# Altium integrated library Microchip PIC24F.IntLib: 529 symbols (part 22 of 32)
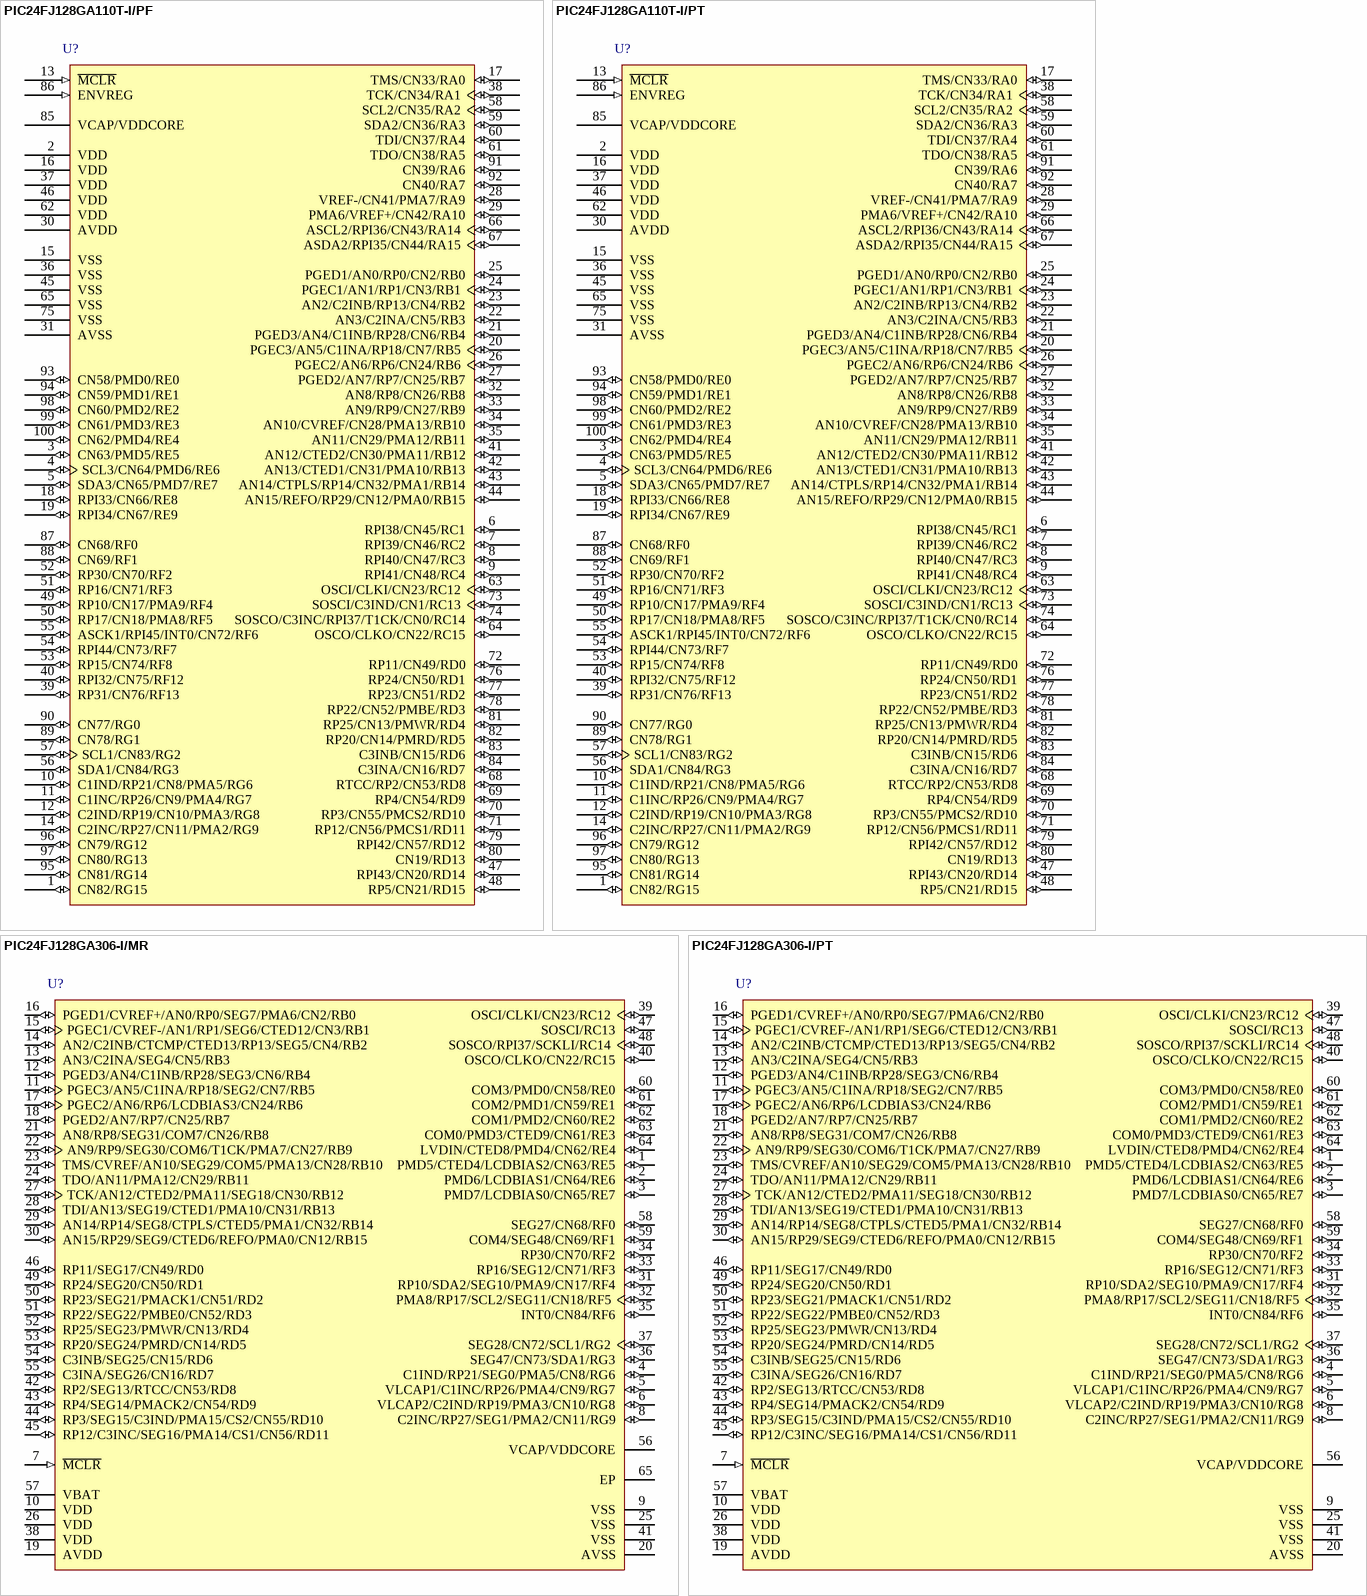
[diagram p143: symbols PIC24FJ128GA110T-I/PF to PIC24FJ128GA306-I/PT]

## PIC24FJ128GA306-I/MR
designator U?
General Purpose, 16-Bit Flash Microcontroller with LCD Controller and nanoWatt XLP Technology, 16 MIPS, 53 I/O, EPMP, -40 to 85 degC, 64-pin QFN (MR64), Tube; Manufacturer: Microchip; PartNumber: PIC24FJ128GA306-I/MR; DatasheetVersion: Rev. F; PackageVersion: C04-149C; PackageReference: QFN-MR64; PackageDescription: 64-Lead Plastic Quad Flat, 9 x 9 mm Body, 0.5 mm Pitch; Supplier 1: Digi-Key; Supplier Part Number 1: PIC24FJ128GA306-I/MR-ND; Supplier 2: Newark; Supplier Part Number 2: 39T6752; Supplier 3: Mouser; Supplier Part Number 3: 579-24FJ128GA306IMR; Mounting Technology: Surface Mount; ComponentLink1Description: Manufacturer URL; ComponentLink1URL: http://www.microchip.com; ComponentLink2Description: Datasheet; ComponentLink2URL: http://ww1.microchip.com/downloads/en/DeviceDoc/39996f.pdf; ComponentLink3Description: Package Specification; ComponentLink3URL: http://www.microchip.com/stellent/groups/techpub_sg/documents/packagingspec/en012702.pdf; ComponentLink4Description: Product URL; ComponentLink4URL: http://www.microchip.com/PIC24FJ128GA306
footprint MCHP-QFN-MR64-7275X7275TP_N (QFN, 64-Leads, Body 9x9mm, Pitch 0.5mm, Thermal Pad 7.275x7.275mm, IPC Medium Density)
footprint MCHP-QFN-MR64-7275X7275TP_L (QFN, 64-Leads, Body 9x9mm, Pitch 0.5mm, Thermal Pad 7.275x7.275mm, IPC High Density)
footprint MCHP-QFN-MR64-7275X7275TP_M (QFN, 64-Leads, Body 9x9mm, Pitch 0.5mm, Thermal Pad 7.275x7.275mm, IPC Low Density)
pins: 1 PMD5/CTED4/LCDBIAS2/CN63/RE5 (io), 2 PMD6/LCDBIAS1/CN64/RE6 (io), 3 PMD7/LCDBIAS0/CN65/RE7 (io), 4 C1IND/RP21/SEG0/PMA5/CN8/RG6 (io), 5 VLCAP1/C1INC/RP26/PMA4/CN9/RG7 (io), 6 VLCAP2/C2IND/RP19/PMA3/CN10/RG8 (io), 7 ~{MCLR} (in) "Master Clear (Reset) input. This pin is an active-low Reset to the device.", 8 C2INC/RP27/SEG1/PMA2/CN11/RG9 (io), 9 VSS (power) "Ground reference for logic and I/O pins.", 10 VDD (power) "Positive supply for peripheral logic and I/O pins.", 11 PGEC3/AN5/C1INA/RP18/SEG2/CN7/RB5 (io), 12 PGED3/AN4/C1INB/RP28/SEG3/CN6/RB4 (io), 13 AN3/C2INA/SEG4/CN5/RB3 (io), 14 AN2/C2INB/CTCMP/CTED13/RP13/SEG5/CN4/RB2 (io), 15 PGEC1/CVREF-/AN1/RP1/SEG6/CTED12/CN3/RB1 (io), 16 PGED1/CVREF+/AN0/RP0/SEG7/PMA6/CN2/RB0 (io), 17 PGEC2/AN6/RP6/LCDBIAS3/CN24/RB6 (io), 18 PGED2/AN7/RP7/CN25/RB7 (io), 19 AVDD (power) "Positive supply for analog modules. This pin must be connected at all times.", 20 AVSS (power) "Ground reference for analog modules.", 21 AN8/RP8/SEG31/COM7/CN26/RB8 (io), 22 AN9/RP9/SEG30/COM6/T1CK/PMA7/CN27/RB9 (io), 23 TMS/CVREF/AN10/SEG29/COM5/PMA13/CN28/RB10 (io), 24 TDO/AN11/PMA12/CN29/RB11 (io), 25 VSS (power) "Ground reference for logic and I/O pins.", 26 VDD (power) "Positive supply for peripheral logic and I/O pins.", 27 TCK/AN12/CTED2/PMA11/SEG18/CN30/RB12 (io), 28 TDI/AN13/SEG19/CTED1/PMA10/CN31/RB13 (io), 29 AN14/RP14/SEG8/CTPLS/CTED5/PMA1/CN32/RB14 (io), 30 AN15/RP29/SEG9/CTED6/REFO/PMA0/CN12/RB15 (io), 31 RP10/SDA2/SEG10/PMA9/CN17/RF4 (io), 32 PMA8/RP17/SCL2/SEG11/CN18/RF5 (io), 33 RP16/SEG12/CN71/RF3 (io), 34 RP30/CN70/RF2 (io), 35 INT0/CN84/RF6 (io), 36 SEG47/CN73/SDA1/RG3 (io), 37 SEG28/CN72/SCL1/RG2 (io), 38 VDD (power) "Positive supply for peripheral logic and I/O pins.", 39 OSCI/CLKI/CN23/RC12 (io), 40 OSCO/CLKO/CN22/RC15 (io), 41 VSS (power) "Ground reference for logic and I/O pins.", 42 RP2/SEG13/RTCC/CN53/RD8 (io), 43 RP4/SEG14/PMACK2/CN54/RD9 (io), 44 RP3/SEG15/C3IND/PMA15/CS2/CN55/RD10 (io), 45 RP12/C3INC/SEG16/PMA14/CS1/CN56/RD11 (io), 46 RP11/SEG17/CN49/RD0 (io), 47 SOSCI/RC13 (io), 48 SOSCO/RPI37/SCKLI/RC14 (io), 49 RP24/SEG20/CN50/RD1 (io), 50 RP23/SEG21/PMACK1/CN51/RD2 (io), 51 RP22/SEG22/PMBE0/CN52/RD3 (io), 52 RP25/SEG23/PMWR/CN13/RD4 (io), 53 RP20/SEG24/PMRD/CN14/RD5 (io), 54 C3INB/SEG25/CN15/RD6 (io), 55 C3INA/SEG26/CN16/RD7 (io), 56 VCAP/VDDCORE, 57 VBAT (power) "Back-up Battery.", 58 SEG27/CN68/RF0 (io), 59 COM4/SEG48/CN69/RF1 (io), 60 COM3/PMD0/CN58/RE0 (io), 61 COM2/PMD1/CN59/RE1 (io), 62 COM1/PMD2/CN60/RE2 (io), 63 COM0/PMD3/CTED9/CN61/RE3 (io), 64 LVDIN/CTED8/PMD4/CN62/RE4 (io), 65 EP (power)

## PIC24FJ128GA306-I/PT
designator U?
General Purpose, 16-Bit Flash Microcontroller with LCD Controller and nanoWatt XLP Technology, 16 MIPS, 53 I/O, EPMP, -40 to 85 degC, 64-pin TQFP (PT64), Tray; Manufacturer: Microchip; PartNumber: PIC24FJ128GA306-I/PT; DatasheetVersion: Rev. F; PackageVersion: C04-085B; PackageReference: TQFP-PT64; PackageDescription: 64-Lead Plastic Thin Quad FlatPack, 10 x 10 mm Body, 0.5 mm Pitch; Supplier 1: Digi-Key; Supplier Part Number 1: PIC24FJ128GA306-I/PT-ND; Supplier 2: Farnell; Supplier Part Number 2: 2076546; Supplier 3: Newark; Supplier Part Number 3: 39T6753; Supplier 4: Mouser; Supplier Part Number 4: 579-24FJ128GA306IPT; Mounting Technology: Surface Mount; ComponentLink1Description: Manufacturer URL; ComponentLink1URL: http://www.microchip.com; ComponentLink2Description: Datasheet; ComponentLink2URL: http://ww1.microchip.com/downloads/en/DeviceDoc/39996f.pdf; ComponentLink3Description: Package Specification; ComponentLink3URL: http://www.microchip.com/stellent/groups/techpub_sg/documents/packagingspec/en012702.pdf; ComponentLink4Description: Product URL; ComponentLink4URL: http://www.microchip.com/PIC24FJ128GA306
footprint MCHP-TQFP-PT64_N (TQFP, 64-Leads, Body 10x10mm, Pitch 0.5mm, IPC Medium Density)
footprint MCHP-TQFP-PT64_L (TQFP, 64-Leads, Body 10x10mm, Pitch 0.5mm, IPC High Density)
footprint MCHP-TQFP-PT64_M (TQFP, 64-Leads, Body 10x10mm, Pitch 0.5mm, IPC Low Density)
pins: 1 PMD5/CTED4/LCDBIAS2/CN63/RE5 (io), 2 PMD6/LCDBIAS1/CN64/RE6 (io), 3 PMD7/LCDBIAS0/CN65/RE7 (io), 4 C1IND/RP21/SEG0/PMA5/CN8/RG6 (io), 5 VLCAP1/C1INC/RP26/PMA4/CN9/RG7 (io), 6 VLCAP2/C2IND/RP19/PMA3/CN10/RG8 (io), 7 ~{MCLR} (in) "Master Clear (Reset) input. This pin is an active-low Reset to the device.", 8 C2INC/RP27/SEG1/PMA2/CN11/RG9 (io), 9 VSS (power) "Ground reference for logic and I/O pins.", 10 VDD (power) "Positive supply for peripheral logic and I/O pins.", 11 PGEC3/AN5/C1INA/RP18/SEG2/CN7/RB5 (io), 12 PGED3/AN4/C1INB/RP28/SEG3/CN6/RB4 (io), 13 AN3/C2INA/SEG4/CN5/RB3 (io), 14 AN2/C2INB/CTCMP/CTED13/RP13/SEG5/CN4/RB2 (io), 15 PGEC1/CVREF-/AN1/RP1/SEG6/CTED12/CN3/RB1 (io), 16 PGED1/CVREF+/AN0/RP0/SEG7/PMA6/CN2/RB0 (io), 17 PGEC2/AN6/RP6/LCDBIAS3/CN24/RB6 (io), 18 PGED2/AN7/RP7/CN25/RB7 (io), 19 AVDD (power) "Positive supply for analog modules. This pin must be connected at all times.", 20 AVSS (power) "Ground reference for analog modules.", 21 AN8/RP8/SEG31/COM7/CN26/RB8 (io), 22 AN9/RP9/SEG30/COM6/T1CK/PMA7/CN27/RB9 (io), 23 TMS/CVREF/AN10/SEG29/COM5/PMA13/CN28/RB10 (io), 24 TDO/AN11/PMA12/CN29/RB11 (io), 25 VSS (power) "Ground reference for logic and I/O pins.", 26 VDD (power) "Positive supply for peripheral logic and I/O pins.", 27 TCK/AN12/CTED2/PMA11/SEG18/CN30/RB12 (io), 28 TDI/AN13/SEG19/CTED1/PMA10/CN31/RB13 (io), 29 AN14/RP14/SEG8/CTPLS/CTED5/PMA1/CN32/RB14 (io), 30 AN15/RP29/SEG9/CTED6/REFO/PMA0/CN12/RB15 (io), 31 RP10/SDA2/SEG10/PMA9/CN17/RF4 (io), 32 PMA8/RP17/SCL2/SEG11/CN18/RF5 (io), 33 RP16/SEG12/CN71/RF3 (io), 34 RP30/CN70/RF2 (io), 35 INT0/CN84/RF6 (io), 36 SEG47/CN73/SDA1/RG3 (io), 37 SEG28/CN72/SCL1/RG2 (io), 38 VDD (power) "Positive supply for peripheral logic and I/O pins.", 39 OSCI/CLKI/CN23/RC12 (io), 40 OSCO/CLKO/CN22/RC15 (io), 41 VSS (power) "Ground reference for logic and I/O pins.", 42 RP2/SEG13/RTCC/CN53/RD8 (io), 43 RP4/SEG14/PMACK2/CN54/RD9 (io), 44 RP3/SEG15/C3IND/PMA15/CS2/CN55/RD10 (io), 45 RP12/C3INC/SEG16/PMA14/CS1/CN56/RD11 (io), 46 RP11/SEG17/CN49/RD0 (io), 47 SOSCI/RC13 (io), 48 SOSCO/RPI37/SCKLI/RC14 (io), 49 RP24/SEG20/CN50/RD1 (io), 50 RP23/SEG21/PMACK1/CN51/RD2 (io), 51 RP22/SEG22/PMBE0/CN52/RD3 (io), 52 RP25/SEG23/PMWR/CN13/RD4 (io), 53 RP20/SEG24/PMRD/CN14/RD5 (io), 54 C3INB/SEG25/CN15/RD6 (io), 55 C3INA/SEG26/CN16/RD7 (io), 56 VCAP/VDDCORE, 57 VBAT (power) "Back-up Battery.", 58 SEG27/CN68/RF0 (io), 59 COM4/SEG48/CN69/RF1 (io), 60 COM3/PMD0/CN58/RE0 (io), 61 COM2/PMD1/CN59/RE1 (io), 62 COM1/PMD2/CN60/RE2 (io), 63 COM0/PMD3/CTED9/CN61/RE3 (io), 64 LVDIN/CTED8/PMD4/CN62/RE4 (io)

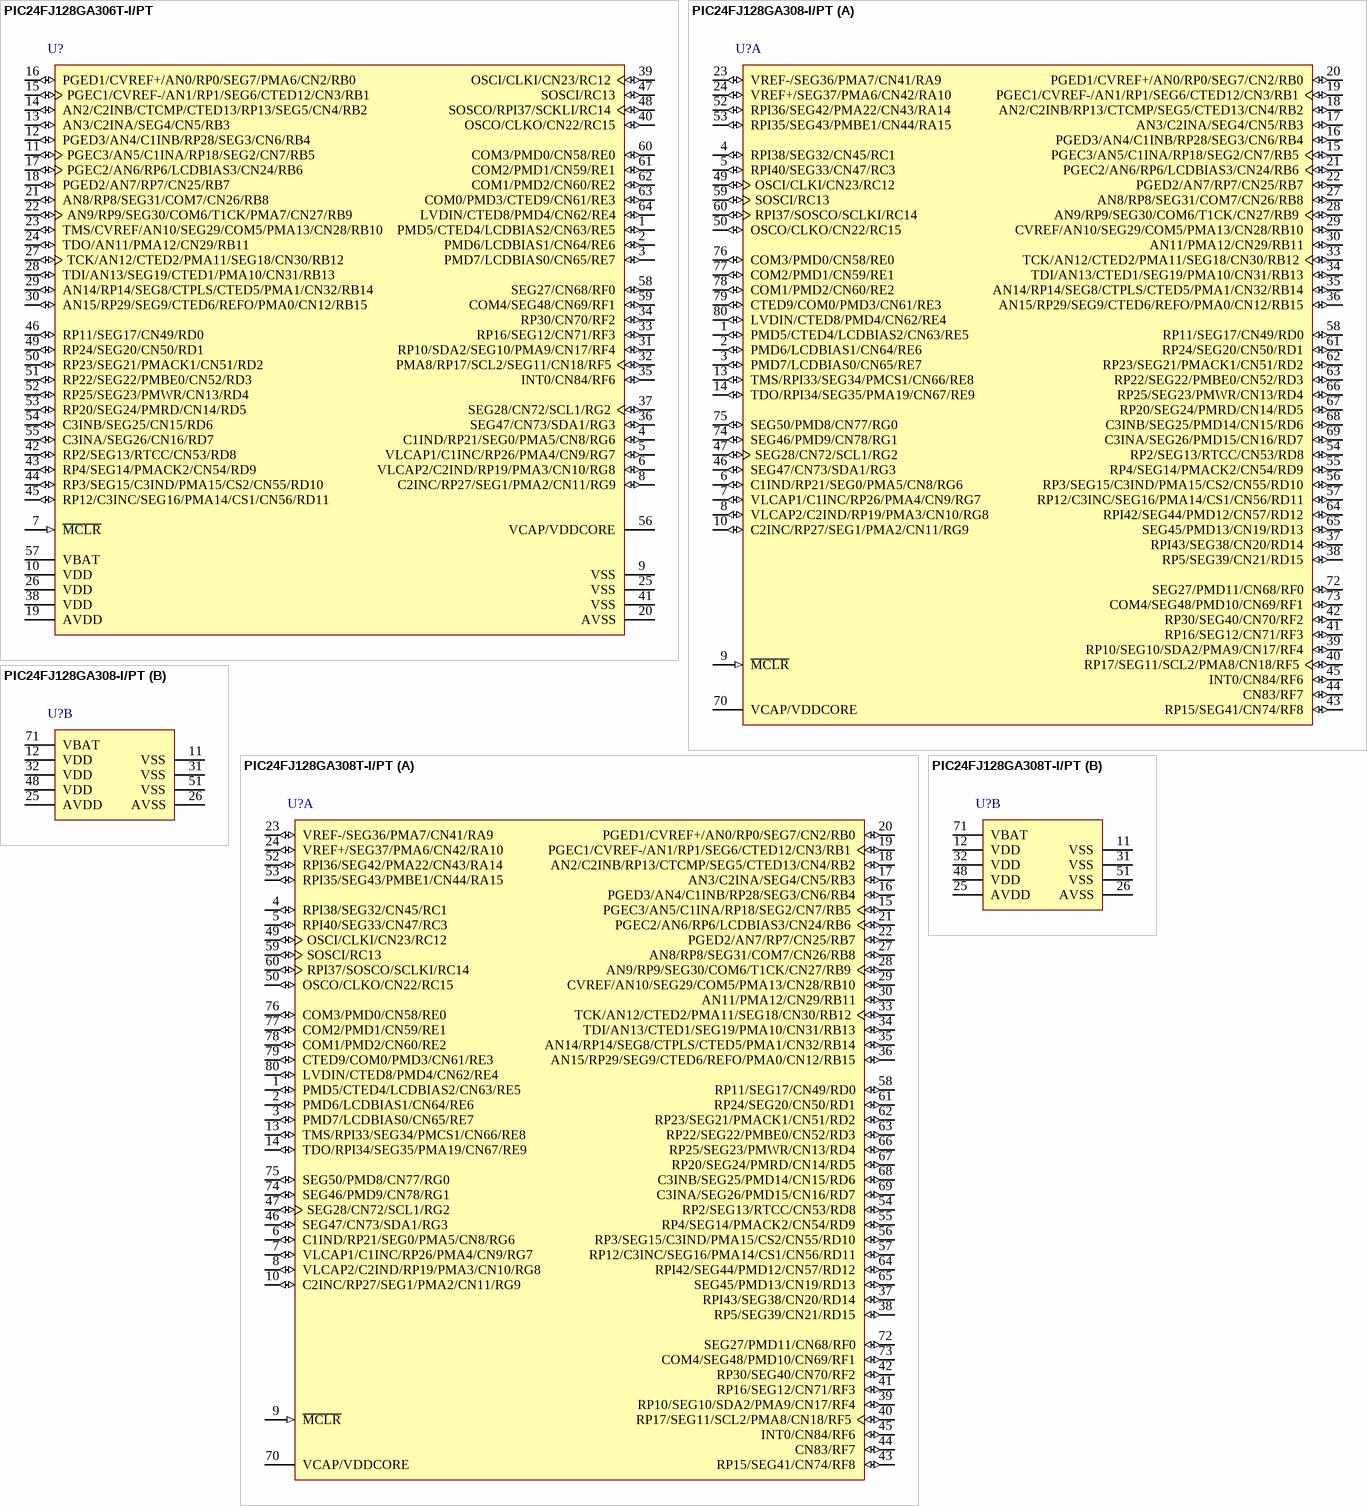
[diagram p77: symbols PIC24FJ128GA306T-I/PT to PIC24FJ128GA308T-I/PT]

## PIC24FJ128GA306T-I/PT
designator U?
General Purpose, 16-Bit Flash Microcontroller with LCD Controller and nanoWatt XLP Technology, 16 MIPS, 53 I/O, EPMP, -40 to 85 degC, 64-pin TQFP (PT64), Tape and Reel; Manufacturer: Microchip; PartNumber: PIC24FJ128GA306T-I/PT; DatasheetVersion: Rev. F; PackageVersion: C04-085B; PackageReference: TQFP-PT64; PackageDescription: 64-Lead Plastic Thin Quad FlatPack, 10 x 10 mm Body, 0.5 mm Pitch; Supplier 1: Digi-Key; Supplier Part Number 1: PIC24FJ128GA306T-I/PT-ND; Supplier 2: Mouser; Supplier Part Number 2: 579-24FJ128GA306TIPT; Mounting Technology: Surface Mount; ComponentLink1Description: Manufacturer URL; ComponentLink1URL: http://www.microchip.com; ComponentLink2Description: Datasheet; ComponentLink2URL: http://ww1.microchip.com/downloads/en/DeviceDoc/39996f.pdf; ComponentLink3Description: Package Specification; ComponentLink3URL: http://www.microchip.com/stellent/groups/techpub_sg/documents/packagingspec/en012702.pdf; ComponentLink4Description: Product URL; ComponentLink4URL: http://www.microchip.com/PIC24FJ128GA306
footprint MCHP-TQFP-PT64_N (TQFP, 64-Leads, Body 10x10mm, Pitch 0.5mm, IPC Medium Density)
footprint MCHP-TQFP-PT64_L (TQFP, 64-Leads, Body 10x10mm, Pitch 0.5mm, IPC High Density)
footprint MCHP-TQFP-PT64_M (TQFP, 64-Leads, Body 10x10mm, Pitch 0.5mm, IPC Low Density)
pins: 1 PMD5/CTED4/LCDBIAS2/CN63/RE5 (io), 2 PMD6/LCDBIAS1/CN64/RE6 (io), 3 PMD7/LCDBIAS0/CN65/RE7 (io), 4 C1IND/RP21/SEG0/PMA5/CN8/RG6 (io), 5 VLCAP1/C1INC/RP26/PMA4/CN9/RG7 (io), 6 VLCAP2/C2IND/RP19/PMA3/CN10/RG8 (io), 7 ~{MCLR} (in) "Master Clear (Reset) input. This pin is an active-low Reset to the device.", 8 C2INC/RP27/SEG1/PMA2/CN11/RG9 (io), 9 VSS (power) "Ground reference for logic and I/O pins.", 10 VDD (power) "Positive supply for peripheral logic and I/O pins.", 11 PGEC3/AN5/C1INA/RP18/SEG2/CN7/RB5 (io), 12 PGED3/AN4/C1INB/RP28/SEG3/CN6/RB4 (io), 13 AN3/C2INA/SEG4/CN5/RB3 (io), 14 AN2/C2INB/CTCMP/CTED13/RP13/SEG5/CN4/RB2 (io), 15 PGEC1/CVREF-/AN1/RP1/SEG6/CTED12/CN3/RB1 (io), 16 PGED1/CVREF+/AN0/RP0/SEG7/PMA6/CN2/RB0 (io), 17 PGEC2/AN6/RP6/LCDBIAS3/CN24/RB6 (io), 18 PGED2/AN7/RP7/CN25/RB7 (io), 19 AVDD (power) "Positive supply for analog modules. This pin must be connected at all times.", 20 AVSS (power) "Ground reference for analog modules.", 21 AN8/RP8/SEG31/COM7/CN26/RB8 (io), 22 AN9/RP9/SEG30/COM6/T1CK/PMA7/CN27/RB9 (io), 23 TMS/CVREF/AN10/SEG29/COM5/PMA13/CN28/RB10 (io), 24 TDO/AN11/PMA12/CN29/RB11 (io), 25 VSS (power) "Ground reference for logic and I/O pins.", 26 VDD (power) "Positive supply for peripheral logic and I/O pins.", 27 TCK/AN12/CTED2/PMA11/SEG18/CN30/RB12 (io), 28 TDI/AN13/SEG19/CTED1/PMA10/CN31/RB13 (io), 29 AN14/RP14/SEG8/CTPLS/CTED5/PMA1/CN32/RB14 (io), 30 AN15/RP29/SEG9/CTED6/REFO/PMA0/CN12/RB15 (io), 31 RP10/SDA2/SEG10/PMA9/CN17/RF4 (io), 32 PMA8/RP17/SCL2/SEG11/CN18/RF5 (io), 33 RP16/SEG12/CN71/RF3 (io), 34 RP30/CN70/RF2 (io), 35 INT0/CN84/RF6 (io), 36 SEG47/CN73/SDA1/RG3 (io), 37 SEG28/CN72/SCL1/RG2 (io), 38 VDD (power) "Positive supply for peripheral logic and I/O pins.", 39 OSCI/CLKI/CN23/RC12 (io), 40 OSCO/CLKO/CN22/RC15 (io), 41 VSS (power) "Ground reference for logic and I/O pins.", 42 RP2/SEG13/RTCC/CN53/RD8 (io), 43 RP4/SEG14/PMACK2/CN54/RD9 (io), 44 RP3/SEG15/C3IND/PMA15/CS2/CN55/RD10 (io), 45 RP12/C3INC/SEG16/PMA14/CS1/CN56/RD11 (io), 46 RP11/SEG17/CN49/RD0 (io), 47 SOSCI/RC13 (io), 48 SOSCO/RPI37/SCKLI/RC14 (io), 49 RP24/SEG20/CN50/RD1 (io), 50 RP23/SEG21/PMACK1/CN51/RD2 (io), 51 RP22/SEG22/PMBE0/CN52/RD3 (io), 52 RP25/SEG23/PMWR/CN13/RD4 (io), 53 RP20/SEG24/PMRD/CN14/RD5 (io), 54 C3INB/SEG25/CN15/RD6 (io), 55 C3INA/SEG26/CN16/RD7 (io), 56 VCAP/VDDCORE, 57 VBAT (power) "Back-up Battery.", 58 SEG27/CN68/RF0 (io), 59 COM4/SEG48/CN69/RF1 (io), 60 COM3/PMD0/CN58/RE0 (io), 61 COM2/PMD1/CN59/RE1 (io), 62 COM1/PMD2/CN60/RE2 (io), 63 COM0/PMD3/CTED9/CN61/RE3 (io), 64 LVDIN/CTED8/PMD4/CN62/RE4 (io)

## PIC24FJ128GA308-I/PT
designator U?
General Purpose, 16-Bit Flash Microcontroller with LCD Controller and nanoWatt XLP Technology, 16 MIPS, 69 I/O, EPMP, -40 to 85 degC, 80-pin TQFP (PT80), Tray; Manufacturer: Microchip; PartNumber: PIC24FJ128GA308-I/PT; DatasheetVersion: Rev. F; PackageVersion: C04-092B; PackageReference: TQFP-PT80; PackageDescription: 80-Lead Plastic Thin Quad FlatPack, 12 x 12 mm Body, 0.5 mm Pitch; Supplier 1: Digi-Key; Supplier Part Number 1: PIC24FJ128GA308-I/PT-ND; Supplier 2: Farnell; Supplier Part Number 2: 2077459; Supplier 3: Newark; Supplier Part Number 3: 39T6754; Supplier 4: Mouser; Supplier Part Number 4: 579-24FJ128GA308IPT; Mounting Technology: Surface Mount; ComponentLink1Description: Manufacturer URL; ComponentLink1URL: http://www.microchip.com; ComponentLink2Description: Datasheet; ComponentLink2URL: http://ww1.microchip.com/downloads/en/DeviceDoc/39996f.pdf; ComponentLink3Description: Package Specification; ComponentLink3URL: http://www.microchip.com/stellent/groups/techpub_sg/documents/packagingspec/en012702.pdf; ComponentLink4Description: Product URL; ComponentLink4URL: http://www.microchip.com/PIC24FJ128GA308
footprint MCHP-TQFP-PT80_N (QFN, 80-Leads, Body 12x12mm, Pitch 0.5mm, IPC Medium Density)
footprint MCHP-TQFP-PT80_L (QFN, 80-Leads, Body 12x12mm, Pitch 0.5mm, IPC High Density)
footprint MCHP-TQFP-PT80_M (QFN, 80-Leads, Body 12x12mm, Pitch 0.5mm, IPC Low Density)
part A pins: 1 PMD5/CTED4/LCDBIAS2/CN63/RE5 (io), 2 PMD6/LCDBIAS1/CN64/RE6 (io), 3 PMD7/LCDBIAS0/CN65/RE7 (io), 4 RPI38/SEG32/CN45/RC1 (io), 5 RPI40/SEG33/CN47/RC3 (io), 6 C1IND/RP21/SEG0/PMA5/CN8/RG6 (io), 7 VLCAP1/C1INC/RP26/PMA4/CN9/RG7 (io), 8 VLCAP2/C2IND/RP19/PMA3/CN10/RG8 (io), 9 ~{MCLR} (in) "Master Clear (Reset) input. This pin is an active-low Reset to the device.", 10 C2INC/RP27/SEG1/PMA2/CN11/RG9 (io), 13 TMS/RPI33/SEG34/PMCS1/CN66/RE8 (io), 14 TDO/RPI34/SEG35/PMA19/CN67/RE9 (io), 15 PGEC3/AN5/C1INA/RP18/SEG2/CN7/RB5 (io), 16 PGED3/AN4/C1INB/RP28/SEG3/CN6/RB4 (io), 17 AN3/C2INA/SEG4/CN5/RB3 (io), 18 AN2/C2INB/RP13/CTCMP/SEG5/CTED13/CN4/RB2 (io), 19 PGEC1/CVREF-/AN1/RP1/SEG6/CTED12/CN3/RB1 (io), 20 PGED1/CVREF+/AN0/RP0/SEG7/CN2/RB0 (io), 21 PGEC2/AN6/RP6/LCDBIAS3/CN24/RB6 (io), 22 PGED2/AN7/RP7/CN25/RB7 (io), 23 VREF-/SEG36/PMA7/CN41/RA9 (io), 24 VREF+/SEG37/PMA6/CN42/RA10 (io), 27 AN8/RP8/SEG31/COM7/CN26/RB8 (io), 28 AN9/RP9/SEG30/COM6/T1CK/CN27/RB9 (io), 29 CVREF/AN10/SEG29/COM5/PMA13/CN28/RB10 (io), 30 AN11/PMA12/CN29/RB11 (io), 33 TCK/AN12/CTED2/PMA11/SEG18/CN30/RB12 (io), 34 TDI/AN13/CTED1/SEG19/PMA10/CN31/RB13 (io), 35 AN14/RP14/SEG8/CTPLS/CTED5/PMA1/CN32/RB14 (io), 36 AN15/RP29/SEG9/CTED6/REFO/PMA0/CN12/RB15 (io), 37 RPI43/SEG38/CN20/RD14 (io), 38 RP5/SEG39/CN21/RD15 (io), 39 RP10/SEG10/SDA2/PMA9/CN17/RF4 (io), 40 RP17/SEG11/SCL2/PMA8/CN18/RF5 (io), 41 RP16/SEG12/CN71/RF3 (io), 42 RP30/SEG40/CN70/RF2 (io), 43 RP15/SEG41/CN74/RF8 (io), 44 CN83/RF7 (io), 45 INT0/CN84/RF6 (io), 46 SEG47/CN73/SDA1/RG3 (io), 47 SEG28/CN72/SCL1/RG2 (io), 49 OSCI/CLKI/CN23/RC12 (io), 50 OSCO/CLKO/CN22/RC15 (io), 52 RPI36/SEG42/PMA22/CN43/RA14 (io), 53 RPI35/SEG43/PMBE1/CN44/RA15 (io), 54 RP2/SEG13/RTCC/CN53/RD8 (io), 55 RP4/SEG14/PMACK2/CN54/RD9 (io), 56 RP3/SEG15/C3IND/PMA15/CS2/CN55/RD10 (io), 57 RP12/C3INC/SEG16/PMA14/CS1/CN56/RD11 (io), 58 RP11/SEG17/CN49/RD0 (io), 59 SOSCI/RC13 (io), 60 RPI37/SOSCO/SCLKI/RC14 (io), 61 RP24/SEG20/CN50/RD1 (io), 62 RP23/SEG21/PMACK1/CN51/RD2 (io), 63 RP22/SEG22/PMBE0/CN52/RD3 (io), 64 RPI42/SEG44/PMD12/CN57/RD12 (io), 65 SEG45/PMD13/CN19/RD13 (io), 66 RP25/SEG23/PMWR/CN13/RD4 (io), 67 RP20/SEG24/PMRD/CN14/RD5 (io), 68 C3INB/SEG25/PMD14/CN15/RD6 (io), 69 C3INA/SEG26/PMD15/CN16/RD7 (io), 70 VCAP/VDDCORE, 72 SEG27/PMD11/CN68/RF0 (io), 73 COM4/SEG48/PMD10/CN69/RF1 (io), 74 SEG46/PMD9/CN78/RG1 (io), 75 SEG50/PMD8/CN77/RG0 (io), 76 COM3/PMD0/CN58/RE0 (io), 77 COM2/PMD1/CN59/RE1 (io), 78 COM1/PMD2/CN60/RE2 (io), 79 CTED9/COM0/PMD3/CN61/RE3 (io), 80 LVDIN/CTED8/PMD4/CN62/RE4 (io)
part B pins: 11 VSS (power) "Ground reference for logic and I/O pins.", 12 VDD (power) "Positive supply for peripheral logic and I/O pins.", 25 AVDD (power) "Positive supply for analog modules. This pin must be connected at all times.", 26 AVSS (power) "Ground reference for analog modules.", 31 VSS (power) "Ground reference for logic and I/O pins.", 32 VDD (power) "Positive supply for peripheral logic and I/O pins.", 48 VDD (power) "Positive supply for peripheral logic and I/O pins.", 51 VSS (power) "Ground reference for logic and I/O pins.", 71 VBAT (power) "Back-up Battery."

## PIC24FJ128GA308T-I/PT
designator U?
General Purpose, 16-Bit Flash Microcontroller with LCD Controller and nanoWatt XLP Technology, 16 MIPS, 69 I/O, EPMP, -40 to 85 degC, 80-pin TQFP (PT80), Tape and Reel; Manufacturer: Microchip; PartNumber: PIC24FJ128GA308T-I/PT; DatasheetVersion: Rev. F; PackageVersion: C04-092B; PackageReference: TQFP-PT80; PackageDescription: 80-Lead Plastic Thin Quad FlatPack, 12 x 12 mm Body, 0.5 mm Pitch; Supplier 1: Digi-Key; Supplier Part Number 1: PIC24FJ128GA308T-I/PT-ND; Supplier 2: Mouser; Supplier Part Number 2: 579-24FJ128GA308TIPT; Mounting Technology: Surface Mount; ComponentLink1Description: Manufacturer URL; ComponentLink1URL: http://www.microchip.com; ComponentLink2Description: Datasheet; ComponentLink2URL: http://ww1.microchip.com/downloads/en/DeviceDoc/39996f.pdf; ComponentLink3Description: Package Specification; ComponentLink3URL: http://www.microchip.com/stellent/groups/techpub_sg/documents/packagingspec/en012702.pdf; ComponentLink4Description: Product URL; ComponentLink4URL: http://www.microchip.com/PIC24FJ128GA308
footprint MCHP-TQFP-PT80_N (QFN, 80-Leads, Body 12x12mm, Pitch 0.5mm, IPC Medium Density)
footprint MCHP-TQFP-PT80_L (QFN, 80-Leads, Body 12x12mm, Pitch 0.5mm, IPC High Density)
footprint MCHP-TQFP-PT80_M (QFN, 80-Leads, Body 12x12mm, Pitch 0.5mm, IPC Low Density)
part A pins: 1 PMD5/CTED4/LCDBIAS2/CN63/RE5 (io), 2 PMD6/LCDBIAS1/CN64/RE6 (io), 3 PMD7/LCDBIAS0/CN65/RE7 (io), 4 RPI38/SEG32/CN45/RC1 (io), 5 RPI40/SEG33/CN47/RC3 (io), 6 C1IND/RP21/SEG0/PMA5/CN8/RG6 (io), 7 VLCAP1/C1INC/RP26/PMA4/CN9/RG7 (io), 8 VLCAP2/C2IND/RP19/PMA3/CN10/RG8 (io), 9 ~{MCLR} (in) "Master Clear (Reset) input. This pin is an active-low Reset to the device.", 10 C2INC/RP27/SEG1/PMA2/CN11/RG9 (io), 13 TMS/RPI33/SEG34/PMCS1/CN66/RE8 (io), 14 TDO/RPI34/SEG35/PMA19/CN67/RE9 (io), 15 PGEC3/AN5/C1INA/RP18/SEG2/CN7/RB5 (io), 16 PGED3/AN4/C1INB/RP28/SEG3/CN6/RB4 (io), 17 AN3/C2INA/SEG4/CN5/RB3 (io), 18 AN2/C2INB/RP13/CTCMP/SEG5/CTED13/CN4/RB2 (io), 19 PGEC1/CVREF-/AN1/RP1/SEG6/CTED12/CN3/RB1 (io), 20 PGED1/CVREF+/AN0/RP0/SEG7/CN2/RB0 (io), 21 PGEC2/AN6/RP6/LCDBIAS3/CN24/RB6 (io), 22 PGED2/AN7/RP7/CN25/RB7 (io), 23 VREF-/SEG36/PMA7/CN41/RA9 (io), 24 VREF+/SEG37/PMA6/CN42/RA10 (io), 27 AN8/RP8/SEG31/COM7/CN26/RB8 (io), 28 AN9/RP9/SEG30/COM6/T1CK/CN27/RB9 (io), 29 CVREF/AN10/SEG29/COM5/PMA13/CN28/RB10 (io), 30 AN11/PMA12/CN29/RB11 (io), 33 TCK/AN12/CTED2/PMA11/SEG18/CN30/RB12 (io), 34 TDI/AN13/CTED1/SEG19/PMA10/CN31/RB13 (io), 35 AN14/RP14/SEG8/CTPLS/CTED5/PMA1/CN32/RB14 (io), 36 AN15/RP29/SEG9/CTED6/REFO/PMA0/CN12/RB15 (io), 37 RPI43/SEG38/CN20/RD14 (io), 38 RP5/SEG39/CN21/RD15 (io), 39 RP10/SEG10/SDA2/PMA9/CN17/RF4 (io), 40 RP17/SEG11/SCL2/PMA8/CN18/RF5 (io), 41 RP16/SEG12/CN71/RF3 (io), 42 RP30/SEG40/CN70/RF2 (io), 43 RP15/SEG41/CN74/RF8 (io), 44 CN83/RF7 (io), 45 INT0/CN84/RF6 (io), 46 SEG47/CN73/SDA1/RG3 (io), 47 SEG28/CN72/SCL1/RG2 (io), 49 OSCI/CLKI/CN23/RC12 (io), 50 OSCO/CLKO/CN22/RC15 (io), 52 RPI36/SEG42/PMA22/CN43/RA14 (io), 53 RPI35/SEG43/PMBE1/CN44/RA15 (io), 54 RP2/SEG13/RTCC/CN53/RD8 (io), 55 RP4/SEG14/PMACK2/CN54/RD9 (io), 56 RP3/SEG15/C3IND/PMA15/CS2/CN55/RD10 (io), 57 RP12/C3INC/SEG16/PMA14/CS1/CN56/RD11 (io), 58 RP11/SEG17/CN49/RD0 (io), 59 SOSCI/RC13 (io), 60 RPI37/SOSCO/SCLKI/RC14 (io), 61 RP24/SEG20/CN50/RD1 (io), 62 RP23/SEG21/PMACK1/CN51/RD2 (io), 63 RP22/SEG22/PMBE0/CN52/RD3 (io), 64 RPI42/SEG44/PMD12/CN57/RD12 (io), 65 SEG45/PMD13/CN19/RD13 (io), 66 RP25/SEG23/PMWR/CN13/RD4 (io), 67 RP20/SEG24/PMRD/CN14/RD5 (io), 68 C3INB/SEG25/PMD14/CN15/RD6 (io), 69 C3INA/SEG26/PMD15/CN16/RD7 (io), 70 VCAP/VDDCORE, 72 SEG27/PMD11/CN68/RF0 (io), 73 COM4/SEG48/PMD10/CN69/RF1 (io), 74 SEG46/PMD9/CN78/RG1 (io), 75 SEG50/PMD8/CN77/RG0 (io), 76 COM3/PMD0/CN58/RE0 (io), 77 COM2/PMD1/CN59/RE1 (io), 78 COM1/PMD2/CN60/RE2 (io), 79 CTED9/COM0/PMD3/CN61/RE3 (io), 80 LVDIN/CTED8/PMD4/CN62/RE4 (io)
part B pins: 11 VSS (power) "Ground reference for logic and I/O pins.", 12 VDD (power) "Positive supply for peripheral logic and I/O pins.", 25 AVDD (power) "Positive supply for analog modules. This pin must be connected at all times.", 26 AVSS (power) "Ground reference for analog modules.", 31 VSS (power) "Ground reference for logic and I/O pins.", 32 VDD (power) "Positive supply for peripheral logic and I/O pins.", 48 VDD (power) "Positive supply for peripheral logic and I/O pins.", 51 VSS (power) "Ground reference for logic and I/O pins.", 71 VBAT (power) "Back-up Battery."

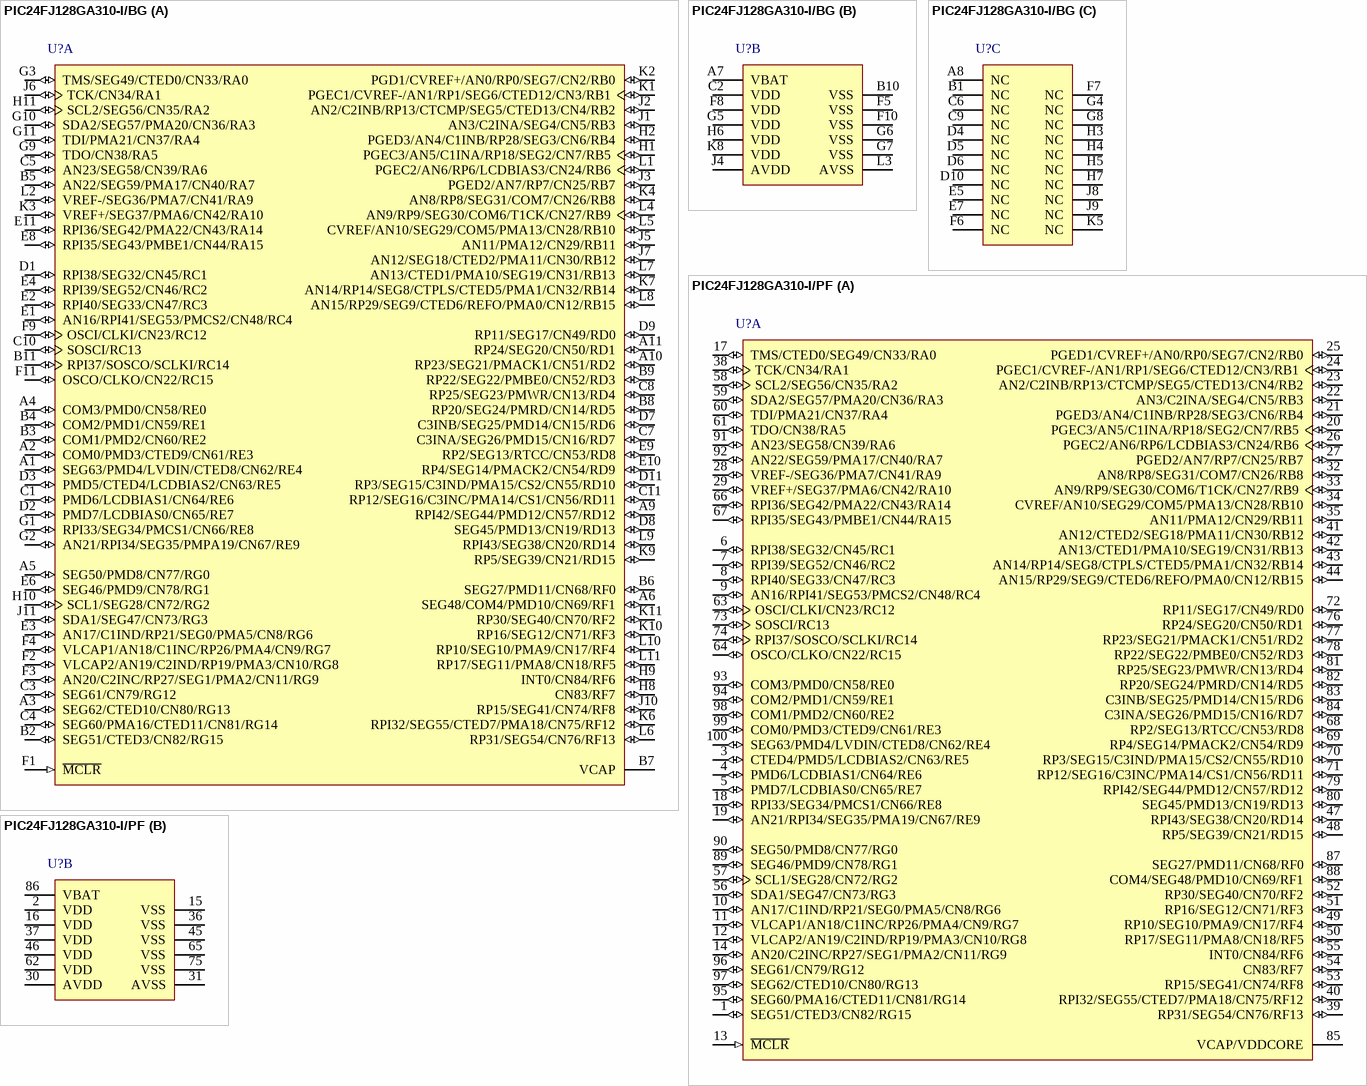
[diagram p78: symbols PIC24FJ128GA310-I/BG to PIC24FJ128GA310-I/PF]

## PIC24FJ128GA310-I/BG
designator U?
General Purpose, 16-Bit Flash Microcontroller with LCD Controller and nanoWatt XLP Technology, 16 MIPS, 85 I/O, EPMP, -40 to 85 degC, 121-pin TFBGA (BG121), Tray; Manufacturer: Microchip; PartNumber: PIC24FJ128GA310-I/BG; DatasheetVersion: Rev. F; PackageVersion: C04-148D; PackageReference: TFBGA-BG121; PackageDescription: 121-Ball Plastic Thin Profile Ball Grid Array, 10 x 10 mm Body, 0.8 mm Pitch; Supplier 1: Digi-Key; Supplier Part Number 1: PIC24FJ128GA310-I/BG-ND; Supplier 2: Mouser; Supplier Part Number 2: 579-24FJ128GA310IBG; Mounting Technology: Surface Mount; ComponentLink1Description: Manufacturer URL; ComponentLink1URL: http://www.microchip.com; ComponentLink2Description: Datasheet; ComponentLink2URL: http://ww1.microchip.com/downloads/en/DeviceDoc/39996f.pdf; ComponentLink3Description: Package Specification; ComponentLink3URL: http://www.microchip.com/stellent/groups/techpub_sg/documents/packagingspec/en012702.pdf; ComponentLink4Description: Product URL; ComponentLink4URL: http://www.microchip.com/PIC24FJ128GA310
footprint MCHP-TFBGA-BG121 (BGA, 121-Balls, Body 10x10mm, Pitch 0.8mm)
part A pins: A1  SEG63/PMD4/LVDIN/CTED8/CN62/RE4 (io), A2  COM0/PMD3/CTED9/CN61/RE3 (io), A3  SEG62/CTED10/CN80/RG13 (io), A4  COM3/PMD0/CN58/RE0 (io), A5  SEG50/PMD8/CN77/RG0 (io), A6  SEG48/COM4/PMD10/CN69/RF1 (io), A9  RPI42/SEG44/PMD12/CN57/RD12 (io), A10  RP23/SEG21/PMACK1/CN51/RD2 (io), A11  RP24/SEG20/CN50/RD1 (io), B2  SEG51/CTED3/CN82/RG15 (io), B3  COM1/PMD2/CN60/RE2 (io), B4  COM2/PMD1/CN59/RE1 (io), B5  AN22/SEG59/PMA17/CN40/RA7 (io), B6  SEG27/PMD11/CN68/RF0 (io), B7  VCAP "External Filter Capacitor Connection (regulator enabled).", B8  RP20/SEG24/PMRD/CN14/RD5 (io), B9  RP22/SEG22/PMBE0/CN52/RD3 (io), B11  RPI37/SOSCO/SCLKI/RC14 (io), C1  PMD6/LCDBIAS1/CN64/RE6 (io), C3  SEG61/CN79/RG12 (io), C4  SEG60/PMA16/CTED11/CN81/RG14 (io), C5  AN23/SEG58/CN39/RA6 (io), C7  C3INA/SEG26/PMD15/CN16/RD7 (io), C8  RP25/SEG23/PMWR/CN13/RD4 (io), C10  SOSCI/RC13 (io), C11  RP12/SEG16/C3INC/PMA14/CS1/CN56/RD11 (io), D1  RPI38/SEG32/CN45/RC1 (io), D2  PMD7/LCDBIAS0/CN65/RE7 (io), D3  PMD5/CTED4/LCDBIAS2/CN63/RE5 (io), D7  C3INB/SEG25/PMD14/CN15/RD6 (io), D8  SEG45/PMD13/CN19/RD13 (io), D9  RP11/SEG17/CN49/RD0 (io), D11  RP3/SEG15/C3IND/PMA15/CS2/CN55/RD10 (io), E1  AN16/RPI41/SEG53/PMCS2/CN48/RC4 (io), E2  RPI40/SEG33/CN47/RC3 (io), E3  AN17/C1IND/RP21/SEG0/PMA5/CN8/RG6 (io), E4  RPI39/SEG52/CN46/RC2 (io), E6  SEG46/PMD9/CN78/RG1 (io), E8  RPI35/SEG43/PMBE1/CN44/RA15 (io), E9  RP2/SEG13/RTCC/CN53/RD8 (io), E10  RP4/SEG14/PMACK2/CN54/RD9 (io), E11  RPI36/SEG42/PMA22/CN43/RA14 (io), F1  ~{MCLR} (in) "Master Clear (device Reset) Input. This line is brought low to cause a Reset.", F2  VLCAP2/AN19/C2IND/RP19/PMA3/CN10/RG8 (io), F3  AN20/C2INC/RP27/SEG1/PMA2/CN11/RG9 (io), F4  VLCAP1/AN18/C1INC/RP26/PMA4/CN9/RG7 (io), F9  OSCI/CLKI/CN23/RC12 (io), F11  OSCO/CLKO/CN22/RC15 (io), G1  RPI33/SEG34/PMCS1/CN66/RE8 (io), G2  AN21/RPI34/SEG35/PMPA19/CN67/RE9 (io), G3  TMS/SEG49/CTED0/CN33/RA0 (io), G9  TDO/CN38/RA5 (io), G10  SDA2/SEG57/PMA20/CN36/RA3 (io), G11  TDI/PMA21/CN37/RA4 (io), H1  PGEC3/AN5/C1INA/RP18/SEG2/CN7/RB5 (io), H2  PGED3/AN4/C1INB/RP28/SEG3/CN6/RB4 (io), H8  CN83/RF7 (io), H9  INT0/CN84/RF6 (io), H10  SCL1/SEG28/CN72/RG2 (io), H11  SCL2/SEG56/CN35/RA2 (io), J1  AN3/C2INA/SEG4/CN5/RB3 (io), J2  AN2/C2INB/RP13/CTCMP/SEG5/CTED13/CN4/RB2 (io), J3  PGED2/AN7/RP7/CN25/RB7 (io), J5  AN11/PMA12/CN29/RB11 (io), J6  TCK/CN34/RA1 (io), J7  AN12/SEG18/CTED2/PMA11/CN30/RB12 (io), J10  RP15/SEG41/CN74/RF8 (io), J11  SDA1/SEG47/CN73/RG3 (io), K1  PGEC1/CVREF-/AN1/RP1/SEG6/CTED12/CN3/RB1 (io), K2  PGD1/CVREF+/AN0/RP0/SEG7/CN2/RB0 (io), K3  VREF+/SEG37/PMA6/CN42/RA10 (io), K4  AN8/RP8/SEG31/COM7/CN26/RB8 (io), K6  RPI32/SEG55/CTED7/PMA18/CN75/RF12 (io), K7  AN14/RP14/SEG8/CTPLS/CTED5/PMA1/CN32/RB14 (io), K9  RP5/SEG39/CN21/RD15 (io), K10  RP16/SEG12/CN71/RF3 (io), K11  RP30/SEG40/CN70/RF2 (io), L1  PGEC2/AN6/RP6/LCDBIAS3/CN24/RB6 (io), L2  VREF-/SEG36/PMA7/CN41/RA9 (io), L4  AN9/RP9/SEG30/COM6/T1CK/CN27/RB9 (io), L5  CVREF/AN10/SEG29/COM5/PMA13/CN28/RB10 (io), L6  RP31/SEG54/CN76/RF13 (io), L7  AN13/CTED1/PMA10/SEG19/CN31/RB13 (io), L8  AN15/RP29/SEG9/CTED6/REFO/PMA0/CN12/RB15 (io), L9  RPI43/SEG38/CN20/RD14 (io), L10  RP10/SEG10/PMA9/CN17/RF4 (io), L11  RP17/SEG11/PMA8/CN18/RF5 (io)
part B pins: A7  VBAT (power) "Back-up Battery.", B10  VSS (power) "Ground Reference for Logic and I/O Pins.", C2  VDD (power) "Positive Supply for Peripheral Digital Logic and I/O Pins.", F5  VSS (power) "Ground Reference for Logic and I/O Pins.", F8  VDD (power) "Positive Supply for Peripheral Digital Logic and I/O Pins.", F10  VSS (power) "Ground Reference for Logic and I/O Pins.", G5  VDD (power) "Positive Supply for Peripheral Digital Logic and I/O Pins.", G6  VSS (power) "Ground Reference for Logic and I/O Pins.", G7  VSS (power) "Ground Reference for Logic and I/O Pins.", H6  VDD (power) "Positive Supply for Peripheral Digital Logic and I/O Pins.", J4  AVDD (power) "Positive Supply for Analog modules.", K8  VDD (power) "Positive Supply for Peripheral Digital Logic and I/O Pins.", L3  AVSS (power) "Ground Reference for Analog modules"
part C pins: A8  NC, B1  NC, C6  NC, C9  NC, D4  NC, D5  NC, D6  NC, D10  NC, E5  NC, E7  NC, F6  NC, F7  NC, G4  NC, G8  NC, H3  NC, H4  NC, H5  NC, H7  NC, J8  NC, J9  NC, K5  NC

## PIC24FJ128GA310-I/PF
designator U?
General Purpose, 16-Bit Flash Microcontroller with LCD Controller and nanoWatt XLP Technology, 16 MIPS, 85 I/O, EPMP, -40 to 85 degC, 100-pin TQFP (PF100), Tray; Manufacturer: Microchip; PartNumber: PIC24FJ128GA310-I/PF; DatasheetVersion: Rev. F; PackageVersion: C04-110B; PackageReference: TQFP-PF100; PackageDescription: 100-Lead Thin Plastic Quad Flat Pack, 14 x 14 mm Body, 0.5 mm Pitch; Supplier 1: Digi-Key; Supplier Part Number 1: PIC24FJ128GA310-I/PF-ND; Supplier 2: Mouser; Supplier Part Number 2: 579-24FJ128GA310IPF; Mounting Technology: Surface Mount; ComponentLink1Description: Manufacturer URL; ComponentLink1URL: http://www.microchip.com; ComponentLink2Description: Datasheet; ComponentLink2URL: http://ww1.microchip.com/downloads/en/DeviceDoc/39996f.pdf; ComponentLink3Description: Package Specification; ComponentLink3URL: http://www.microchip.com/stellent/groups/techpub_sg/documents/packagingspec/en012702.pdf; ComponentLink4Description: Product URL; ComponentLink4URL: http://www.microchip.com/PIC24FJ128GA310
footprint MCHP-TQFP-PF100_N (QFP, 100-Leads, Body 14x14mm, Pitch 0.5mm, IPC Medium Density)
footprint MCHP-TQFP-PF100_L (QFP, 100-Leads, Body 14x14mm, Pitch 0.5mm, IPC High Density)
footprint MCHP-TQFP-PF100_M (QFP, 100-Leads, Body 14x14mm, Pitch 0.5mm, IPC Low Density)
part A pins: 1 SEG51/CTED3/CN82/RG15 (io), 3 CTED4/PMD5/LCDBIAS2/CN63/RE5 (io), 4 PMD6/LCDBIAS1/CN64/RE6 (io), 5 PMD7/LCDBIAS0/CN65/RE7 (io), 6 RPI38/SEG32/CN45/RC1 (io), 7 RPI39/SEG52/CN46/RC2 (io), 8 RPI40/SEG33/CN47/RC3 (io), 9 AN16/RPI41/SEG53/PMCS2/CN48/RC4 (io), 10 AN17/C1IND/RP21/SEG0/PMA5/CN8/RG6 (io), 11 VLCAP1/AN18/C1INC/RP26/PMA4/CN9/RG7 (io), 12 VLCAP2/AN19/C2IND/RP19/PMA3/CN10/RG8 (io), 13 ~{MCLR} (in) "Master Clear (device Reset) Input. This line is brought low to cause a Reset.", 14 AN20/C2INC/RP27/SEG1/PMA2/CN11/RG9 (io), 17 TMS/CTED0/SEG49/CN33/RA0 (io), 18 RPI33/SEG34/PMCS1/CN66/RE8 (io), 19 AN21/RPI34/SEG35/PMA19/CN67/RE9 (io), 20 PGEC3/AN5/C1INA/RP18/SEG2/CN7/RB5 (io), 21 PGED3/AN4/C1INB/RP28/SEG3/CN6/RB4 (io), 22 AN3/C2INA/SEG4/CN5/RB3 (io), 23 AN2/C2INB/RP13/CTCMP/SEG5/CTED13/CN4/RB2 (io), 24 PGEC1/CVREF-/AN1/RP1/SEG6/CTED12/CN3/RB1 (io), 25 PGED1/CVREF+/AN0/RP0/SEG7/CN2/RB0 (io), 26 PGEC2/AN6/RP6/LCDBIAS3/CN24/RB6 (io), 27 PGED2/AN7/RP7/CN25/RB7 (io), 28 VREF-/SEG36/PMA7/CN41/RA9 (io), 29 VREF+/SEG37/PMA6/CN42/RA10 (io), 32 AN8/RP8/SEG31/COM7/CN26/RB8 (io), 33 AN9/RP9/SEG30/COM6/T1CK/CN27/RB9 (io), 34 CVREF/AN10/SEG29/COM5/PMA13/CN28/RB10 (io), 35 AN11/PMA12/CN29/RB11 (io), 38 TCK/CN34/RA1 (io), 39 RP31/SEG54/CN76/RF13 (io), 40 RPI32/SEG55/CTED7/PMA18/CN75/RF12 (io), 41 AN12/CTED2/SEG18/PMA11/CN30/RB12 (io), 42 AN13/CTED1/PMA10/SEG19/CN31/RB13 (io), 43 AN14/RP14/SEG8/CTPLS/CTED5/PMA1/CN32/RB14 (io), 44 AN15/RP29/SEG9/CTED6/REFO/PMA0/CN12/RB15 (io), 47 RPI43/SEG38/CN20/RD14 (io), 48 RP5/SEG39/CN21/RD15 (io), 49 RP10/SEG10/PMA9/CN17/RF4 (io), 50 RP17/SEG11/PMA8/CN18/RF5 (io), 51 RP16/SEG12/CN71/RF3 (io), 52 RP30/SEG40/CN70/RF2 (io), 53 RP15/SEG41/CN74/RF8 (io), 54 CN83/RF7 (io), 55 INT0/CN84/RF6 (io), 56 SDA1/SEG47/CN73/RG3 (io), 57 SCL1/SEG28/CN72/RG2 (io), 58 SCL2/SEG56/CN35/RA2 (io), 59 SDA2/SEG57/PMA20/CN36/RA3 (io), 60 TDI/PMA21/CN37/RA4 (io), 61 TDO/CN38/RA5 (io), 63 OSCI/CLKI/CN23/RC12 (io), 64 OSCO/CLKO/CN22/RC15 (io), 66 RPI36/SEG42/PMA22/CN43/RA14 (io), 67 RPI35/SEG43/PMBE1/CN44/RA15 (io), 68 RP2/SEG13/RTCC/CN53/RD8 (io), 69 RP4/SEG14/PMACK2/CN54/RD9 (io), 70 RP3/SEG15/C3IND/PMA15/CS2/CN55/RD10 (io), 71 RP12/SEG16/C3INC/PMA14/CS1/CN56/RD11 (io), 72 RP11/SEG17/CN49/RD0 (io), 73 SOSCI/RC13 (io), 74 RPI37/SOSCO/SCLKI/RC14 (io), 76 RP24/SEG20/CN50/RD1 (io), 77 RP23/SEG21/PMACK1/CN51/RD2 (io), 78 RP22/SEG22/PMBE0/CN52/RD3 (io), 79 RPI42/SEG44/PMD12/CN57/RD12 (io), 80 SEG45/PMD13/CN19/RD13 (io), 81 RP25/SEG23/PMWR/CN13/RD4 (io), 82 RP20/SEG24/PMRD/CN14/RD5 (io), 83 C3INB/SEG25/PMD14/CN15/RD6 (io), 84 C3INA/SEG26/PMD15/CN16/RD7 (io), 85 VCAP/VDDCORE, 87 SEG27/PMD11/CN68/RF0 (io), 88 COM4/SEG48/PMD10/CN69/RF1 (io), 89 SEG46/PMD9/CN78/RG1 (io), 90 SEG50/PMD8/CN77/RG0 (io), 91 AN23/SEG58/CN39/RA6 (io), 92 AN22/SEG59/PMA17/CN40/RA7 (io), 93 COM3/PMD0/CN58/RE0 (io), 94 COM2/PMD1/CN59/RE1 (io), 95 SEG60/PMA16/CTED11/CN81/RG14 (io), 96 SEG61/CN79/RG12 (io), 97 SEG62/CTED10/CN80/RG13 (io), 98 COM1/PMD2/CN60/RE2 (io), 99 COM0/PMD3/CTED9/CN61/RE3 (io), 100 SEG63/PMD4/LVDIN/CTED8/CN62/RE4 (io)
part B pins: 2 VDD (power) "Positive Supply for Peripheral Digital Logic and I/O Pins.", 15 VSS (power) "Ground Reference for Logic and I/O Pins.", 16 VDD (power) "Positive Supply for Peripheral Digital Logic and I/O Pins.", 30 AVDD (power) "Positive Supply for Analog modules.", 31 AVSS (power) "Ground Reference for Analog modules.", 36 VSS (power) "Ground Reference for Logic and I/O Pins.", 37 VDD (power) "Positive Supply for Peripheral Digital Logic and I/O Pins.", 45 VSS (power) "Ground Reference for Logic and I/O Pins.", 46 VDD (power) "Positive Supply for Peripheral Digital Logic and I/O Pins.", 62 VDD (power) "Positive Supply for Peripheral Digital Logic and I/O Pins.", 65 VSS (power) "Ground Reference for Logic and I/O Pins.", 75 VSS (power) "Ground Reference for Logic and I/O Pins.", 86 VBAT (power) "Back-up Battery."

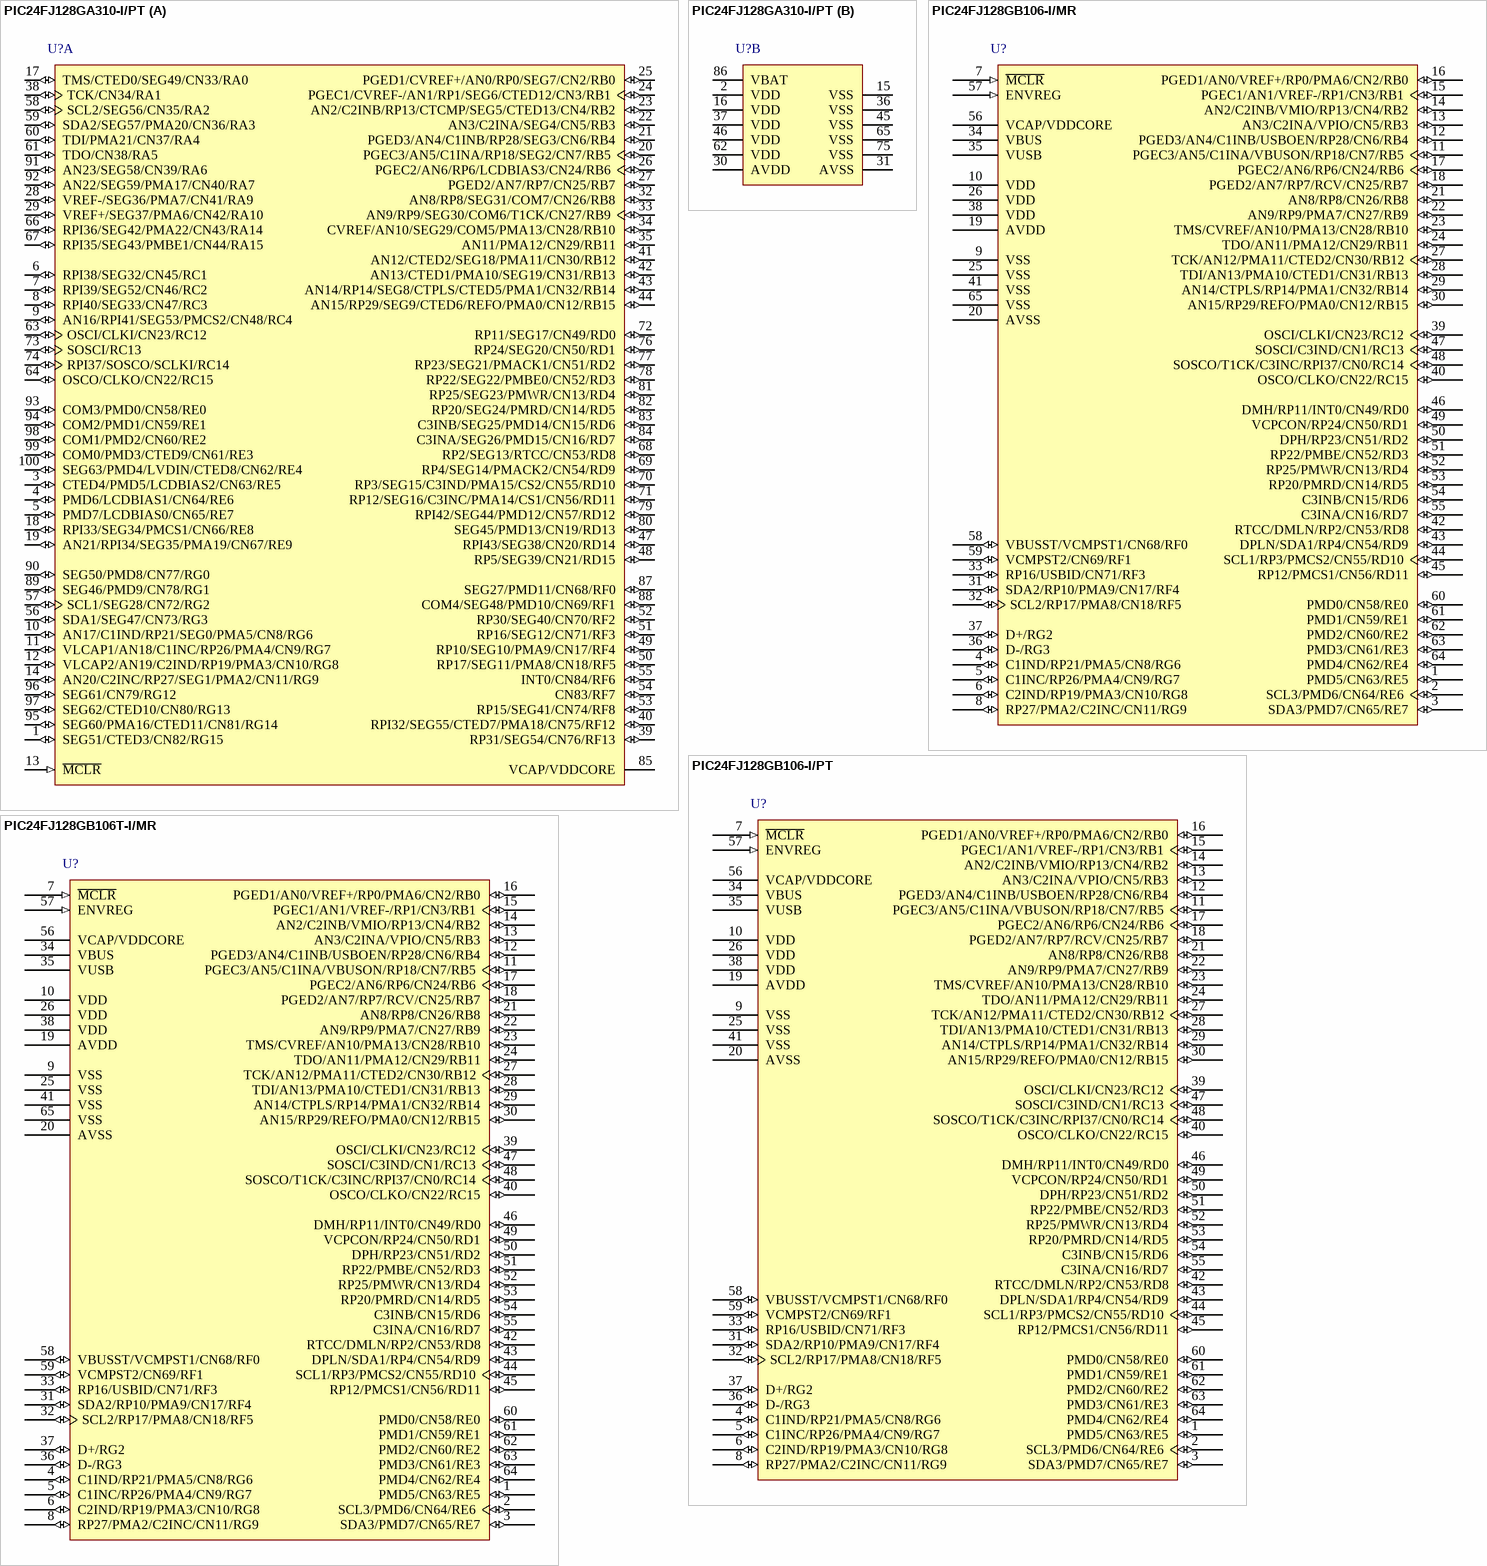
[diagram p79: symbols PIC24FJ128GA310-I/PT to PIC24FJ128GB106T-I/MR]

## PIC24FJ128GA310-I/PT
designator U?
General Purpose, 16-Bit Flash Microcontroller with LCD Controller and nanoWatt XLP Technology, 16 MIPS, 85 I/O, EPMP, -40 to 85 degC, 100-pin TQFP (PT100), Tray; Manufacturer: Microchip; PartNumber: PIC24FJ128GA310-I/PT; DatasheetVersion: Rev. F; PackageVersion: C04-100B; PackageReference: TQFP-PT100; PackageDescription: 100-Lead Plastic Thin Quad Flatpack, 12 x 12 mm Body, 0.4 mm Pitch; Supplier 1: Digi-Key; Supplier Part Number 1: PIC24FJ128GA310-I/PT-ND; Supplier 2: Farnell; Supplier Part Number 2: 2076547; Supplier 3: Newark; Supplier Part Number 3: 39T6757; Supplier 4: Mouser; Supplier Part Number 4: 579-24FJ128GA310IPT; Mounting Technology: Surface Mount; ComponentLink1Description: Manufacturer URL; ComponentLink1URL: http://www.microchip.com; ComponentLink2Description: Datasheet; ComponentLink2URL: http://ww1.microchip.com/downloads/en/DeviceDoc/39996f.pdf; ComponentLink3Description: Package Specification; ComponentLink3URL: http://www.microchip.com/stellent/groups/techpub_sg/documents/packagingspec/en012702.pdf; ComponentLink4Description: Product URL; ComponentLink4URL: http://www.microchip.com/PIC24FJ128GA310
footprint MCHP-TQFP-PT100_N (QFP, 100-Leads, Body 12x12mm, Pitch 0.4mm, IPC Medium Density)
footprint MCHP-TQFP-PT100_L (QFP, 100-Leads, Body 12x12mm, Pitch 0.4mm, IPC High Density)
footprint MCHP-TQFP-PT100_M (TQFP, 100-Leads, Body 12x12mm, Pitch 0.4mm, IPC Low Density)
part A pins: 1 SEG51/CTED3/CN82/RG15 (io), 3 CTED4/PMD5/LCDBIAS2/CN63/RE5 (io), 4 PMD6/LCDBIAS1/CN64/RE6 (io), 5 PMD7/LCDBIAS0/CN65/RE7 (io), 6 RPI38/SEG32/CN45/RC1 (io), 7 RPI39/SEG52/CN46/RC2 (io), 8 RPI40/SEG33/CN47/RC3 (io), 9 AN16/RPI41/SEG53/PMCS2/CN48/RC4 (io), 10 AN17/C1IND/RP21/SEG0/PMA5/CN8/RG6 (io), 11 VLCAP1/AN18/C1INC/RP26/PMA4/CN9/RG7 (io), 12 VLCAP2/AN19/C2IND/RP19/PMA3/CN10/RG8 (io), 13 ~{MCLR} (in) "Master Clear (device Reset) Input. This line is brought low to cause a Reset.", 14 AN20/C2INC/RP27/SEG1/PMA2/CN11/RG9 (io), 17 TMS/CTED0/SEG49/CN33/RA0 (io), 18 RPI33/SEG34/PMCS1/CN66/RE8 (io), 19 AN21/RPI34/SEG35/PMA19/CN67/RE9 (io), 20 PGEC3/AN5/C1INA/RP18/SEG2/CN7/RB5 (io), 21 PGED3/AN4/C1INB/RP28/SEG3/CN6/RB4 (io), 22 AN3/C2INA/SEG4/CN5/RB3 (io), 23 AN2/C2INB/RP13/CTCMP/SEG5/CTED13/CN4/RB2 (io), 24 PGEC1/CVREF-/AN1/RP1/SEG6/CTED12/CN3/RB1 (io), 25 PGED1/CVREF+/AN0/RP0/SEG7/CN2/RB0 (io), 26 PGEC2/AN6/RP6/LCDBIAS3/CN24/RB6 (io), 27 PGED2/AN7/RP7/CN25/RB7 (io), 28 VREF-/SEG36/PMA7/CN41/RA9 (io), 29 VREF+/SEG37/PMA6/CN42/RA10 (io), 32 AN8/RP8/SEG31/COM7/CN26/RB8 (io), 33 AN9/RP9/SEG30/COM6/T1CK/CN27/RB9 (io), 34 CVREF/AN10/SEG29/COM5/PMA13/CN28/RB10 (io), 35 AN11/PMA12/CN29/RB11 (io), 38 TCK/CN34/RA1 (io), 39 RP31/SEG54/CN76/RF13 (io), 40 RPI32/SEG55/CTED7/PMA18/CN75/RF12 (io), 41 AN12/CTED2/SEG18/PMA11/CN30/RB12 (io), 42 AN13/CTED1/PMA10/SEG19/CN31/RB13 (io), 43 AN14/RP14/SEG8/CTPLS/CTED5/PMA1/CN32/RB14 (io), 44 AN15/RP29/SEG9/CTED6/REFO/PMA0/CN12/RB15 (io), 47 RPI43/SEG38/CN20/RD14 (io), 48 RP5/SEG39/CN21/RD15 (io), 49 RP10/SEG10/PMA9/CN17/RF4 (io), 50 RP17/SEG11/PMA8/CN18/RF5 (io), 51 RP16/SEG12/CN71/RF3 (io), 52 RP30/SEG40/CN70/RF2 (io), 53 RP15/SEG41/CN74/RF8 (io), 54 CN83/RF7 (io), 55 INT0/CN84/RF6 (io), 56 SDA1/SEG47/CN73/RG3 (io), 57 SCL1/SEG28/CN72/RG2 (io), 58 SCL2/SEG56/CN35/RA2 (io), 59 SDA2/SEG57/PMA20/CN36/RA3 (io), 60 TDI/PMA21/CN37/RA4 (io), 61 TDO/CN38/RA5 (io), 63 OSCI/CLKI/CN23/RC12 (io), 64 OSCO/CLKO/CN22/RC15 (io), 66 RPI36/SEG42/PMA22/CN43/RA14 (io), 67 RPI35/SEG43/PMBE1/CN44/RA15 (io), 68 RP2/SEG13/RTCC/CN53/RD8 (io), 69 RP4/SEG14/PMACK2/CN54/RD9 (io), 70 RP3/SEG15/C3IND/PMA15/CS2/CN55/RD10 (io), 71 RP12/SEG16/C3INC/PMA14/CS1/CN56/RD11 (io), 72 RP11/SEG17/CN49/RD0 (io), 73 SOSCI/RC13 (io), 74 RPI37/SOSCO/SCLKI/RC14 (io), 76 RP24/SEG20/CN50/RD1 (io), 77 RP23/SEG21/PMACK1/CN51/RD2 (io), 78 RP22/SEG22/PMBE0/CN52/RD3 (io), 79 RPI42/SEG44/PMD12/CN57/RD12 (io), 80 SEG45/PMD13/CN19/RD13 (io), 81 RP25/SEG23/PMWR/CN13/RD4 (io), 82 RP20/SEG24/PMRD/CN14/RD5 (io), 83 C3INB/SEG25/PMD14/CN15/RD6 (io), 84 C3INA/SEG26/PMD15/CN16/RD7 (io), 85 VCAP/VDDCORE, 87 SEG27/PMD11/CN68/RF0 (io), 88 COM4/SEG48/PMD10/CN69/RF1 (io), 89 SEG46/PMD9/CN78/RG1 (io), 90 SEG50/PMD8/CN77/RG0 (io), 91 AN23/SEG58/CN39/RA6 (io), 92 AN22/SEG59/PMA17/CN40/RA7 (io), 93 COM3/PMD0/CN58/RE0 (io), 94 COM2/PMD1/CN59/RE1 (io), 95 SEG60/PMA16/CTED11/CN81/RG14 (io), 96 SEG61/CN79/RG12 (io), 97 SEG62/CTED10/CN80/RG13 (io), 98 COM1/PMD2/CN60/RE2 (io), 99 COM0/PMD3/CTED9/CN61/RE3 (io), 100 SEG63/PMD4/LVDIN/CTED8/CN62/RE4 (io)
part B pins: 2 VDD (power) "Positive Supply for Peripheral Digital Logic and I/O Pins.", 15 VSS (power) "Ground Reference for Logic and I/O Pins.", 16 VDD (power) "Positive Supply for Peripheral Digital Logic and I/O Pins.", 30 AVDD (power) "Positive Supply for Analog modules.", 31 AVSS (power) "Ground Reference for Analog modules.", 36 VSS (power) "Ground Reference for Logic and I/O Pins.", 37 VDD (power) "Positive Supply for Peripheral Digital Logic and I/O Pins.", 45 VSS (power) "Ground Reference for Logic and I/O Pins.", 46 VDD (power) "Positive Supply for Peripheral Digital Logic and I/O Pins.", 62 VDD (power) "Positive Supply for Peripheral Digital Logic and I/O Pins.", 65 VSS (power) "Ground Reference for Logic and I/O Pins.", 75 VSS (power) "Ground Reference for Logic and I/O Pins.", 86 VBAT (power) "Back-up Battery."

## PIC24FJ128GB106-I/MR
designator U?
General Purpose 16-Bit Flash Microcontroller with USB On-The-Go, 128KB Flash, 16KB SRAM, 64-Pin QFN, Industrial Temperature; Manufacturer: Microchip; PartNumber: PIC24FJ128GB106-I/MR; DatasheetVersion: revC, Dec-2009; PackageVersion: revBB, Aug-2009; PackageReference: QFN-MR64; PackageDescription: 64-Lead Plastic Quad Flat, No Lead Package (MR) - 9x9x0.9 mm Body [QFN]; Supplier 1: Digi-Key; Supplier Part Number 1: PIC24FJ128GB106-I/MR-ND; Supplier 2: Farnell; Supplier Part Number 2: 1708591; Supplier 3: Newark; Supplier Part Number 3: 08R1995; Supplier 4: Mouser; Supplier Part Number 4: 579-24FJ128GB106-IMR; Mounting Technology: Surface Mount; ComponentLink1Description: Manufacturer URL; ComponentLink1URL: http://www.microchip.com/; ComponentLink2Description: Datasheet; ComponentLink2URL: http://ww1.microchip.com/downloads/en/DeviceDoc/39897c.pdf; ComponentLink3Description: Package Specification; ComponentLink3URL: http://www.microchip.com/stellent/groups/techpub_sg/documents/packagingspec/en012702.pdf
footprint QFN-MR64_N (QFN, 64-Leads, Body 9x9mm, Pitch 0.5mm, Thermal Pad 7.5x7.5mm, IPC Medium Density)
footprint QFN-MR64_L (QFN, 64-Leads, Body 9x9mm, Pitch 0.5mm, Thermal Pad 7.5x7.5mm, IPC High Density)
footprint QFN-MR64_M (QFN, 64-Leads, Body 9x9mm, Pitch 0.5mm, Thermal Pad 7.5x7.5mm, IPC Low Density)
pins: 1 PMD5/CN63/RE5 (io), 2 SCL3/PMD6/CN64/RE6 (io), 3 SDA3/PMD7/CN65/RE7 (io), 4 C1IND/RP21/PMA5/CN8/RG6 (io), 5 C1INC/RP26/PMA4/CN9/RG7 (io), 6 C2IND/RP19/PMA3/CN10/RG8 (io), 7 ~{MCLR} (in), 8 RP27/PMA2/C2INC/CN11/RG9 (io), 9 VSS (power), 10 VDD (power), 11 PGEC3/AN5/C1INA/VBUSON/RP18/CN7/RB5 (io), 12 PGED3/AN4/C1INB/USBOEN/RP28/CN6/RB4 (io), 13 AN3/C2INA/VPIO/CN5/RB3 (io), 14 AN2/C2INB/VMIO/RP13/CN4/RB2 (io), 15 PGEC1/AN1/VREF-/RP1/CN3/RB1 (io), 16 PGED1/AN0/VREF+/RP0/PMA6/CN2/RB0 (io), 17 PGEC2/AN6/RP6/CN24/RB6 (io), 18 PGED2/AN7/RP7/RCV/CN25/RB7 (io), 19 AVDD (power), 20 AVSS (power), 21 AN8/RP8/CN26/RB8 (io), 22 AN9/RP9/PMA7/CN27/RB9 (io), 23 TMS/CVREF/AN10/PMA13/CN28/RB10 (io), 24 TDO/AN11/PMA12/CN29/RB11 (io), 25 VSS (power), 26 VDD (power), 27 TCK/AN12/PMA11/CTED2/CN30/RB12 (io), 28 TDI/AN13/PMA10/CTED1/CN31/RB13 (io), 29 AN14/CTPLS/RP14/PMA1/CN32/RB14 (io), 30 AN15/RP29/REFO/PMA0/CN12/RB15 (io), 31 SDA2/RP10/PMA9/CN17/RF4 (io), 32 SCL2/RP17/PMA8/CN18/RF5 (io), 33 RP16/USBID/CN71/RF3 (io), 34 VBUS (power), 35 VUSB (power), 36 D-/RG3 (io), 37 D+/RG2 (io), 38 VDD (power), 39 OSCI/CLKI/CN23/RC12 (io), 40 OSCO/CLKO/CN22/RC15 (io), 41 VSS (power), 42 RTCC/DMLN/RP2/CN53/RD8 (io), 43 DPLN/SDA1/RP4/CN54/RD9 (io), 44 SCL1/RP3/PMCS2/CN55/RD10 (io), 45 RP12/PMCS1/CN56/RD11 (io), 46 DMH/RP11/INT0/CN49/RD0 (io), 47 SOSCI/C3IND/CN1/RC13 (io), 48 SOSCO/T1CK/C3INC/RPI37/CN0/RC14 (io), 49 VCPCON/RP24/CN50/RD1 (io), 50 DPH/RP23/CN51/RD2 (io), 51 RP22/PMBE/CN52/RD3 (io), 52 RP25/PMWR/CN13/RD4 (io), 53 RP20/PMRD/CN14/RD5 (io), 54 C3INB/CN15/RD6 (io), 55 C3INA/CN16/RD7 (io), 56 VCAP/VDDCORE (power), 57 ENVREG (in), 58 VBUSST/VCMPST1/CN68/RF0 (io), 59 VCMPST2/CN69/RF1 (io), 60 PMD0/CN58/RE0 (io), 61 PMD1/CN59/RE1 (io), 62 PMD2/CN60/RE2 (io), 63 PMD3/CN61/RE3 (io), 64 PMD4/CN62/RE4 (io), 65 VSS

## PIC24FJ128GB106-I/PT
designator U?
General Purpose 16-Bit Flash Microcontroller with USB On-The-Go, 128KB Flash, 16KB SRAM, 64-Pin TQFP, Industrial Temperature; Manufacturer: Microchip; PartNumber: PIC24FJ128GB106-I/PT; DatasheetVersion: revC, Dec-2009; PackageVersion: revBB, Aug-2009; PackageReference: TQFP-PT64; PackageDescription: 64-Lead Thin Plastic Quad Flat Pack (PT) - 10x10x1mm Body, 2.00mm [TQFP]; Supplier 1: Digi-Key; Supplier Part Number 1: PIC24FJ128GB106-I/PT-ND; Supplier 2: Farnell; Supplier Part Number 2: 1576850MPKG; Supplier 3: Farnell; Supplier Part Number 3: 1576850; Supplier 4: Newark; Supplier Part Number 4: 54M5097; Supplier 5: Mouser; Supplier Part Number 5: 579-PIC24128GB106IPT; Mounting Technology: Surface Mount; Code_JEDEC: MS-026; ComponentLink1Description: Manufacturer URL; ComponentLink1URL: http://www.microchip.com/; ComponentLink2Description: Datasheet; ComponentLink2URL: http://ww1.microchip.com/downloads/en/DeviceDoc/39897c.pdf; ComponentLink3Description: Package Specification; ComponentLink3URL: http://www.microchip.com/stellent/groups/techpub_sg/documents/packagingspec/en012702.pdf
footprint TQFP-PT64_N (Thin QFP, 64-Leads, Body 10x10mm, Pitch 0.5mm, IPC Medium Density)
footprint TQFP-PT64_L (Thin QFP, 64-Leads, Body 10x10mm, Pitch 0.5mm, IPC High Density)
footprint TQFP-PT64_M (Thin QFP, 64-Leads, Body 10x10mm, Pitch 0.5mm, IPC Low Density)
pins: 1 PMD5/CN63/RE5 (io), 2 SCL3/PMD6/CN64/RE6 (io), 3 SDA3/PMD7/CN65/RE7 (io), 4 C1IND/RP21/PMA5/CN8/RG6 (io), 5 C1INC/RP26/PMA4/CN9/RG7 (io), 6 C2IND/RP19/PMA3/CN10/RG8 (io), 7 ~{MCLR} (in), 8 RP27/PMA2/C2INC/CN11/RG9 (io), 9 VSS (power), 10 VDD (power), 11 PGEC3/AN5/C1INA/VBUSON/RP18/CN7/RB5 (io), 12 PGED3/AN4/C1INB/USBOEN/RP28/CN6/RB4 (io), 13 AN3/C2INA/VPIO/CN5/RB3 (io), 14 AN2/C2INB/VMIO/RP13/CN4/RB2 (io), 15 PGEC1/AN1/VREF-/RP1/CN3/RB1 (io), 16 PGED1/AN0/VREF+/RP0/PMA6/CN2/RB0 (io), 17 PGEC2/AN6/RP6/CN24/RB6 (io), 18 PGED2/AN7/RP7/RCV/CN25/RB7 (io), 19 AVDD (power), 20 AVSS (power), 21 AN8/RP8/CN26/RB8 (io), 22 AN9/RP9/PMA7/CN27/RB9 (io), 23 TMS/CVREF/AN10/PMA13/CN28/RB10 (io), 24 TDO/AN11/PMA12/CN29/RB11 (io), 25 VSS (power), 26 VDD (power), 27 TCK/AN12/PMA11/CTED2/CN30/RB12 (io), 28 TDI/AN13/PMA10/CTED1/CN31/RB13 (io), 29 AN14/CTPLS/RP14/PMA1/CN32/RB14 (io), 30 AN15/RP29/REFO/PMA0/CN12/RB15 (io), 31 SDA2/RP10/PMA9/CN17/RF4 (io), 32 SCL2/RP17/PMA8/CN18/RF5 (io), 33 RP16/USBID/CN71/RF3 (io), 34 VBUS (power), 35 VUSB (power), 36 D-/RG3 (io), 37 D+/RG2 (io), 38 VDD (power), 39 OSCI/CLKI/CN23/RC12 (io), 40 OSCO/CLKO/CN22/RC15 (io), 41 VSS (power), 42 RTCC/DMLN/RP2/CN53/RD8 (io), 43 DPLN/SDA1/RP4/CN54/RD9 (io), 44 SCL1/RP3/PMCS2/CN55/RD10 (io), 45 RP12/PMCS1/CN56/RD11 (io), 46 DMH/RP11/INT0/CN49/RD0 (io), 47 SOSCI/C3IND/CN1/RC13 (io), 48 SOSCO/T1CK/C3INC/RPI37/CN0/RC14 (io), 49 VCPCON/RP24/CN50/RD1 (io), 50 DPH/RP23/CN51/RD2 (io), 51 RP22/PMBE/CN52/RD3 (io), 52 RP25/PMWR/CN13/RD4 (io), 53 RP20/PMRD/CN14/RD5 (io), 54 C3INB/CN15/RD6 (io), 55 C3INA/CN16/RD7 (io), 56 VCAP/VDDCORE (power), 57 ENVREG (in), 58 VBUSST/VCMPST1/CN68/RF0 (io), 59 VCMPST2/CN69/RF1 (io), 60 PMD0/CN58/RE0 (io), 61 PMD1/CN59/RE1 (io), 62 PMD2/CN60/RE2 (io), 63 PMD3/CN61/RE3 (io), 64 PMD4/CN62/RE4 (io)

## PIC24FJ128GB106T-I/MR
designator U?
General Purpose 16-Bit Flash Microcontroller with USB On-The-Go, 128KB Flash, 16KB SRAM, 64-Pin QFN, Industrial Temperature, Tape and Reel; Manufacturer: Microchip; PartNumber: PIC24FJ128GB106T-I/MR; DatasheetVersion: revC, Dec-2009; PackageVersion: revBB, Aug-2009; PackageReference: QFN-MR64; PackageDescription: 64-Lead Plastic Quad Flat, No Lead Package (MR) - 9x9x0.9 mm Body [QFN]; Mounting Technology: Surface Mount; ComponentLink1Description: Manufacturer URL; ComponentLink1URL: http://www.microchip.com/; ComponentLink2Description: Datasheet; ComponentLink2URL: http://ww1.microchip.com/downloads/en/DeviceDoc/39897c.pdf; ComponentLink3Description: Package Specification; ComponentLink3URL: http://www.microchip.com/stellent/groups/techpub_sg/documents/packagingspec/en012702.pdf
footprint QFN-MR64_N (QFN, 64-Leads, Body 9x9mm, Pitch 0.5mm, Thermal Pad 7.5x7.5mm, IPC Medium Density)
footprint QFN-MR64_L (QFN, 64-Leads, Body 9x9mm, Pitch 0.5mm, Thermal Pad 7.5x7.5mm, IPC High Density)
footprint QFN-MR64_M (QFN, 64-Leads, Body 9x9mm, Pitch 0.5mm, Thermal Pad 7.5x7.5mm, IPC Low Density)
pins: 1 PMD5/CN63/RE5 (io), 2 SCL3/PMD6/CN64/RE6 (io), 3 SDA3/PMD7/CN65/RE7 (io), 4 C1IND/RP21/PMA5/CN8/RG6 (io), 5 C1INC/RP26/PMA4/CN9/RG7 (io), 6 C2IND/RP19/PMA3/CN10/RG8 (io), 7 ~{MCLR} (in), 8 RP27/PMA2/C2INC/CN11/RG9 (io), 9 VSS (power), 10 VDD (power), 11 PGEC3/AN5/C1INA/VBUSON/RP18/CN7/RB5 (io), 12 PGED3/AN4/C1INB/USBOEN/RP28/CN6/RB4 (io), 13 AN3/C2INA/VPIO/CN5/RB3 (io), 14 AN2/C2INB/VMIO/RP13/CN4/RB2 (io), 15 PGEC1/AN1/VREF-/RP1/CN3/RB1 (io), 16 PGED1/AN0/VREF+/RP0/PMA6/CN2/RB0 (io), 17 PGEC2/AN6/RP6/CN24/RB6 (io), 18 PGED2/AN7/RP7/RCV/CN25/RB7 (io), 19 AVDD (power), 20 AVSS (power), 21 AN8/RP8/CN26/RB8 (io), 22 AN9/RP9/PMA7/CN27/RB9 (io), 23 TMS/CVREF/AN10/PMA13/CN28/RB10 (io), 24 TDO/AN11/PMA12/CN29/RB11 (io), 25 VSS (power), 26 VDD (power), 27 TCK/AN12/PMA11/CTED2/CN30/RB12 (io), 28 TDI/AN13/PMA10/CTED1/CN31/RB13 (io), 29 AN14/CTPLS/RP14/PMA1/CN32/RB14 (io), 30 AN15/RP29/REFO/PMA0/CN12/RB15 (io), 31 SDA2/RP10/PMA9/CN17/RF4 (io), 32 SCL2/RP17/PMA8/CN18/RF5 (io), 33 RP16/USBID/CN71/RF3 (io), 34 VBUS (power), 35 VUSB (power), 36 D-/RG3 (io), 37 D+/RG2 (io), 38 VDD (power), 39 OSCI/CLKI/CN23/RC12 (io), 40 OSCO/CLKO/CN22/RC15 (io), 41 VSS (power), 42 RTCC/DMLN/RP2/CN53/RD8 (io), 43 DPLN/SDA1/RP4/CN54/RD9 (io), 44 SCL1/RP3/PMCS2/CN55/RD10 (io), 45 RP12/PMCS1/CN56/RD11 (io), 46 DMH/RP11/INT0/CN49/RD0 (io), 47 SOSCI/C3IND/CN1/RC13 (io), 48 SOSCO/T1CK/C3INC/RPI37/CN0/RC14 (io), 49 VCPCON/RP24/CN50/RD1 (io), 50 DPH/RP23/CN51/RD2 (io), 51 RP22/PMBE/CN52/RD3 (io), 52 RP25/PMWR/CN13/RD4 (io), 53 RP20/PMRD/CN14/RD5 (io), 54 C3INB/CN15/RD6 (io), 55 C3INA/CN16/RD7 (io), 56 VCAP/VDDCORE (power), 57 ENVREG (in), 58 VBUSST/VCMPST1/CN68/RF0 (io), 59 VCMPST2/CN69/RF1 (io), 60 PMD0/CN58/RE0 (io), 61 PMD1/CN59/RE1 (io), 62 PMD2/CN60/RE2 (io), 63 PMD3/CN61/RE3 (io), 64 PMD4/CN62/RE4 (io), 65 VSS

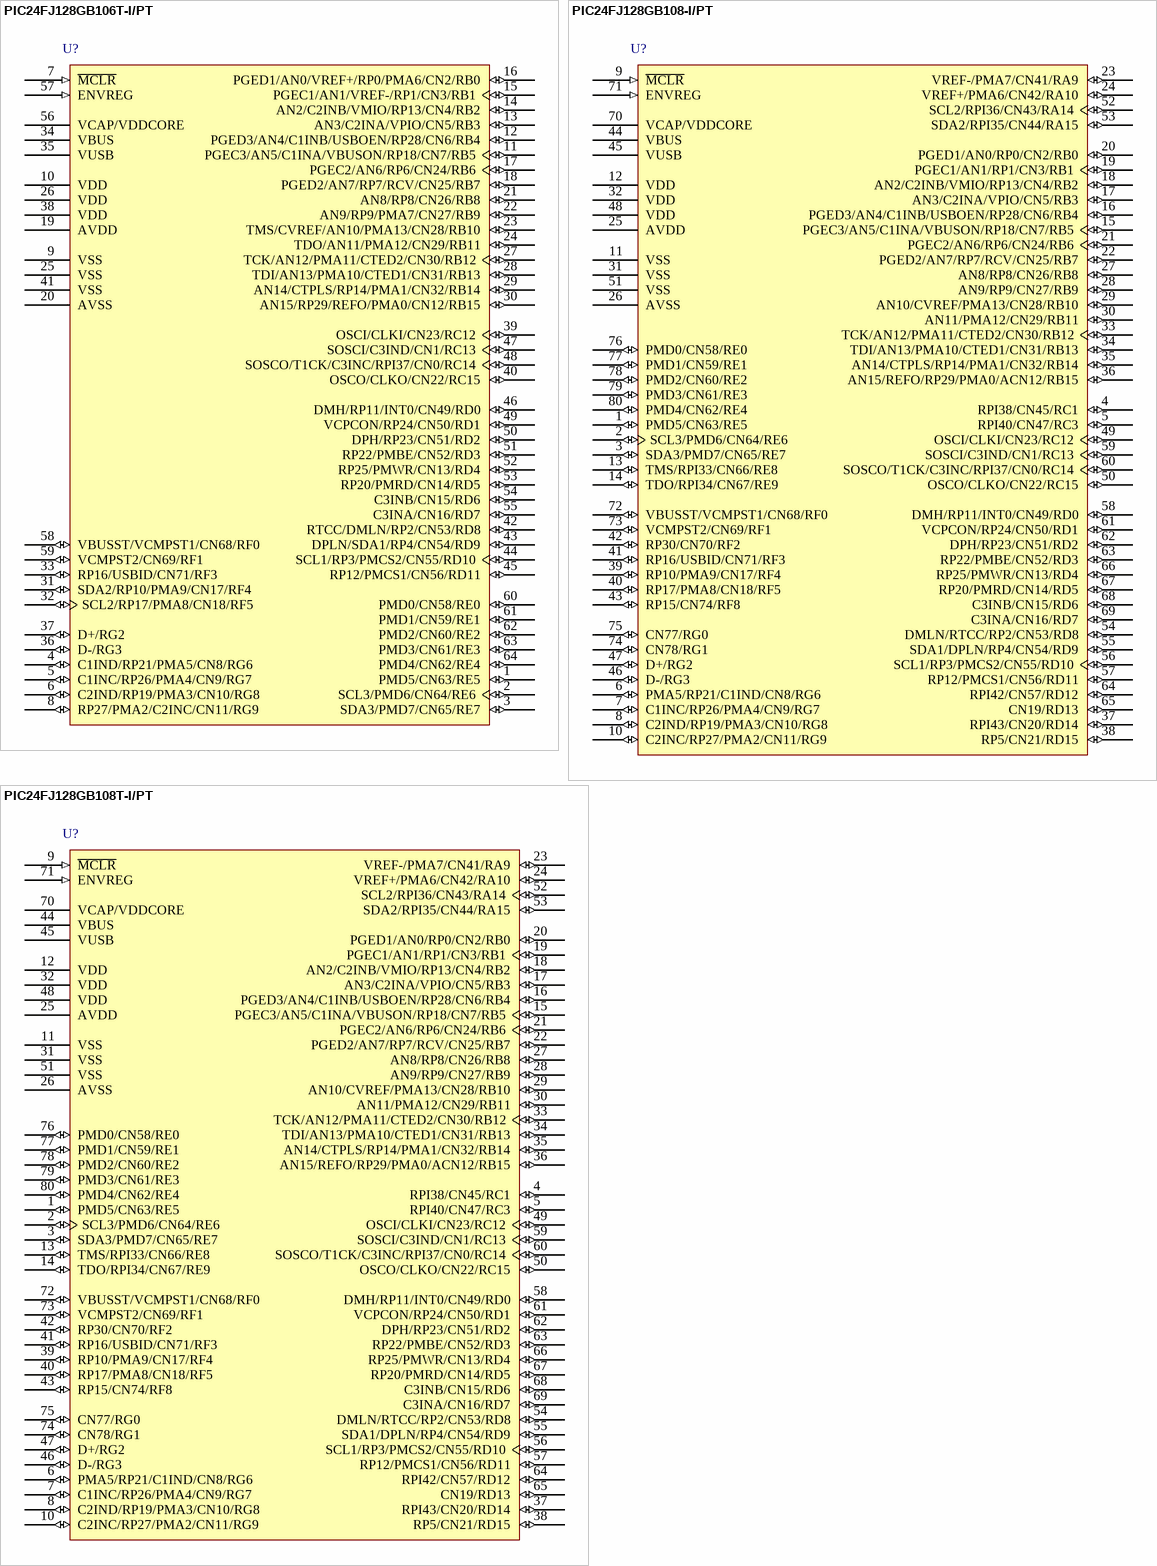
[diagram p80: symbols PIC24FJ128GB106T-I/PT to PIC24FJ128GB108T-I/PT]

## PIC24FJ128GB106T-I/PT
designator U?
General Purpose 16-Bit Flash Microcontroller with USB On-The-Go, 128KB Flash, 16KB SRAM, 64-Pin TQFP, Industrial Temperature, Tape and Reel; Manufacturer: Microchip; PartNumber: PIC24FJ128GB106T-I/PT; DatasheetVersion: revC, Dec-2009; PackageVersion: revBB, Aug-2009; PackageReference: TQFP-PT64; PackageDescription: 64-Lead Thin Plastic Quad Flat Pack (PT) - 10x10x1mm Body, 2.00mm [TQFP]; Supplier 1: Digi-Key; Supplier Part Number 1: PIC24FJ128GB106T-I/PTTR-ND; Supplier 2: Mouser; Supplier Part Number 2: 579-PIC2128GB106TIPT; Mounting Technology: Surface Mount; Code_JEDEC: MS-026; ComponentLink1Description: Manufacturer URL; ComponentLink1URL: http://www.microchip.com/; ComponentLink2Description: Datasheet; ComponentLink2URL: http://ww1.microchip.com/downloads/en/DeviceDoc/39897c.pdf; ComponentLink3Description: Package Specification; ComponentLink3URL: http://www.microchip.com/stellent/groups/techpub_sg/documents/packagingspec/en012702.pdf
footprint TQFP-PT64_N (Thin QFP, 64-Leads, Body 10x10mm, Pitch 0.5mm, IPC Medium Density)
footprint TQFP-PT64_L (Thin QFP, 64-Leads, Body 10x10mm, Pitch 0.5mm, IPC High Density)
footprint TQFP-PT64_M (Thin QFP, 64-Leads, Body 10x10mm, Pitch 0.5mm, IPC Low Density)
pins: 1 PMD5/CN63/RE5 (io), 2 SCL3/PMD6/CN64/RE6 (io), 3 SDA3/PMD7/CN65/RE7 (io), 4 C1IND/RP21/PMA5/CN8/RG6 (io), 5 C1INC/RP26/PMA4/CN9/RG7 (io), 6 C2IND/RP19/PMA3/CN10/RG8 (io), 7 ~{MCLR} (in), 8 RP27/PMA2/C2INC/CN11/RG9 (io), 9 VSS (power), 10 VDD (power), 11 PGEC3/AN5/C1INA/VBUSON/RP18/CN7/RB5 (io), 12 PGED3/AN4/C1INB/USBOEN/RP28/CN6/RB4 (io), 13 AN3/C2INA/VPIO/CN5/RB3 (io), 14 AN2/C2INB/VMIO/RP13/CN4/RB2 (io), 15 PGEC1/AN1/VREF-/RP1/CN3/RB1 (io), 16 PGED1/AN0/VREF+/RP0/PMA6/CN2/RB0 (io), 17 PGEC2/AN6/RP6/CN24/RB6 (io), 18 PGED2/AN7/RP7/RCV/CN25/RB7 (io), 19 AVDD (power), 20 AVSS (power), 21 AN8/RP8/CN26/RB8 (io), 22 AN9/RP9/PMA7/CN27/RB9 (io), 23 TMS/CVREF/AN10/PMA13/CN28/RB10 (io), 24 TDO/AN11/PMA12/CN29/RB11 (io), 25 VSS (power), 26 VDD (power), 27 TCK/AN12/PMA11/CTED2/CN30/RB12 (io), 28 TDI/AN13/PMA10/CTED1/CN31/RB13 (io), 29 AN14/CTPLS/RP14/PMA1/CN32/RB14 (io), 30 AN15/RP29/REFO/PMA0/CN12/RB15 (io), 31 SDA2/RP10/PMA9/CN17/RF4 (io), 32 SCL2/RP17/PMA8/CN18/RF5 (io), 33 RP16/USBID/CN71/RF3 (io), 34 VBUS (power), 35 VUSB (power), 36 D-/RG3 (io), 37 D+/RG2 (io), 38 VDD (power), 39 OSCI/CLKI/CN23/RC12 (io), 40 OSCO/CLKO/CN22/RC15 (io), 41 VSS (power), 42 RTCC/DMLN/RP2/CN53/RD8 (io), 43 DPLN/SDA1/RP4/CN54/RD9 (io), 44 SCL1/RP3/PMCS2/CN55/RD10 (io), 45 RP12/PMCS1/CN56/RD11 (io), 46 DMH/RP11/INT0/CN49/RD0 (io), 47 SOSCI/C3IND/CN1/RC13 (io), 48 SOSCO/T1CK/C3INC/RPI37/CN0/RC14 (io), 49 VCPCON/RP24/CN50/RD1 (io), 50 DPH/RP23/CN51/RD2 (io), 51 RP22/PMBE/CN52/RD3 (io), 52 RP25/PMWR/CN13/RD4 (io), 53 RP20/PMRD/CN14/RD5 (io), 54 C3INB/CN15/RD6 (io), 55 C3INA/CN16/RD7 (io), 56 VCAP/VDDCORE (power), 57 ENVREG (in), 58 VBUSST/VCMPST1/CN68/RF0 (io), 59 VCMPST2/CN69/RF1 (io), 60 PMD0/CN58/RE0 (io), 61 PMD1/CN59/RE1 (io), 62 PMD2/CN60/RE2 (io), 63 PMD3/CN61/RE3 (io), 64 PMD4/CN62/RE4 (io)